# Altium schematic symbol library ZX_MyLib.SchLib: 567 symbols (part 2 of 5)

## ECMF06-6AM16
designator U?
pins: 1 DR0+, 2 DR0-, 3 GND, 4 DR1+, 5 DR1+, 6 GND, 7 DR2+, 8 DR2-, 9 DT2-, 10 DT2+, 11 GND, 12 DT1-, 13 DT1+, 14 NC, 15 DT0-, 16 DT0+

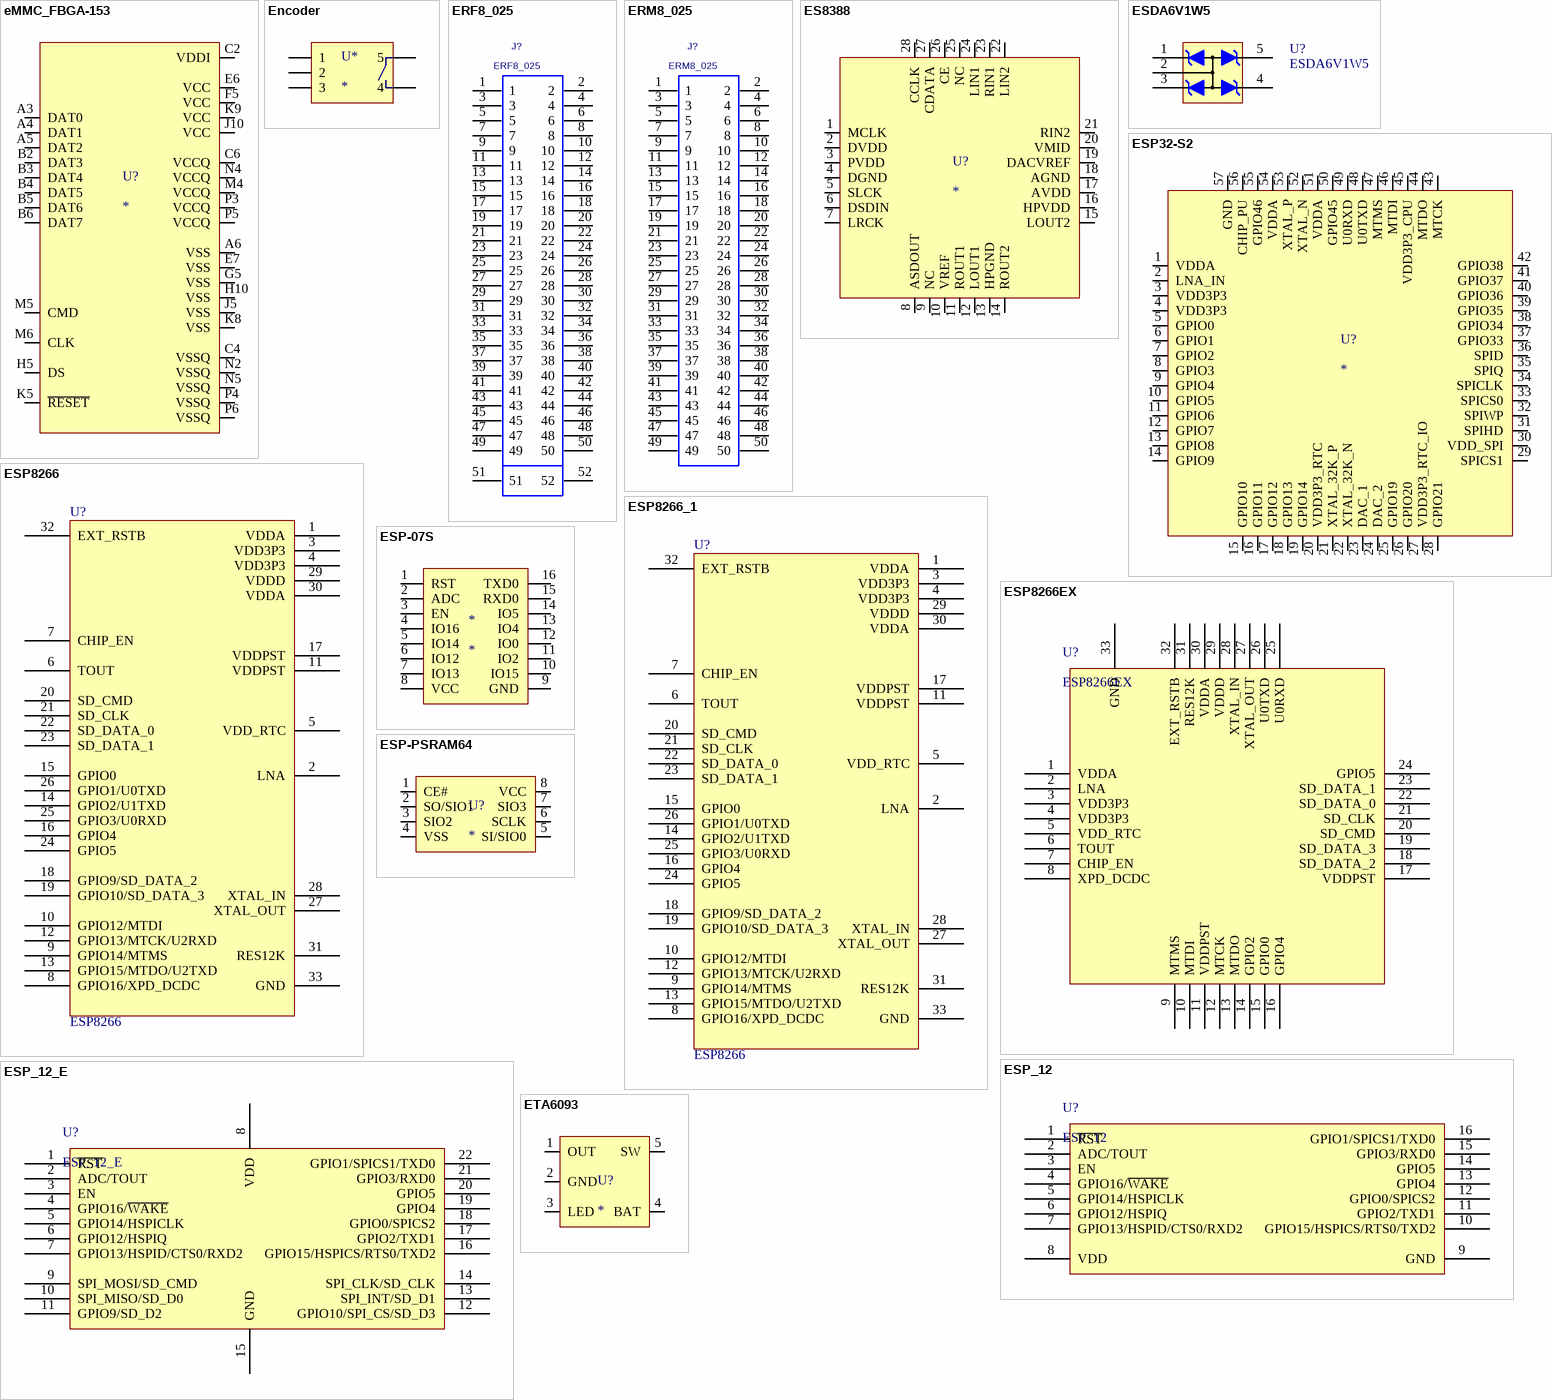
[diagram p6: symbols eMMC_FBGA-153 to ETA6093]

## eMMC_FBGA-153
designator U?
KLMAG1JETD-B041
pins: A3 DAT0, A4 DAT1, A5 DAT2, A6 VSS, B2 DAT3, B3 DAT4, B4 DAT5, B5 DAT6, B6 DAT7, C2 VDDI, C4 VSSQ, C6 VCCQ, E6 VCC, E7 VSS, F5 VCC, G5 VSS, H5 DS, H10 VSS, J5 VSS, J10 VCC, K5 ~{RESET}, K8 VSS, K9 VCC, M4 VCCQ, M5 CMD, M6 CLK, N2 VSSQ, N4 VCCQ, N5 VSSQ, P3 VCCQ, P4 VSSQ, P5 VCCQ, P6 VSSQ

## Encoder
designator U*
footprint 编码器
pins: 1, 2, 3, 4, 5

## ERF8_025
designator J?
0.8mm Edge Rate Socket Assembly, Double Vertical Row, 50 Pins.; MANUFACTURER: SAMTEC; PCB DECAL: ERF8-025-XX.X-X-DV-L; CREATED: July 31, 2014 - Wendy Xin
footprint ERF8_025
pins: 1, 2, 3, 4, 5, 6, 7, 8, 9, 10, 11, 12, 13, 14, 15, 16, 17, 18, 19, 20, 21, 22, 23, 24, 25, 26, 27, 28, 29, 30, 31, 32, 33, 34, 35, 36, 37, 38, 39, 40, 41, 42, 43, 44, 45, 46, 47, 48, 49, 50, 51, 52

## ERM8_025
designator J?
0.8mm Edge Rate Socket Assembly, Double Vertical Row, 50 Pins.; MANUFACTURER: SAMTEC; PCB DECAL: ERF8-025-XX.X-X-DV-L; CREATED: July 31, 2014 - Wendy Xin
footprint ERM8_025
pins: 1, 2, 3, 4, 5, 6, 7, 8, 9, 10, 11, 12, 13, 14, 15, 16, 17, 18, 19, 20, 21, 22, 23, 24, 25, 26, 27, 28, 29, 30, 31, 32, 33, 34, 35, 36, 37, 38, 39, 40, 41, 42, 43, 44, 45, 46, 47, 48, 49, 50

## ES8388
designator U?
footprint QFN28 (QFN28, 0.5Pitch, 5.0x5.0mm)
pins: 1 MCLK, 2 DVDD, 3 PVDD, 4 DGND, 5 SLCK, 6 DSDIN, 7 LRCK, 8 ASDOUT, 9 NC, 10 VREF, 11 ROUT1, 12 LOUT1, 13 HPGND, 14 ROUT2, 15 LOUT2, 16 HPVDD, 17 AVDD, 18 AGND, 19 DACVREF, 20 VMID, 21 RIN2, 22 LIN2, 23 RIN1, 24 LIN1, 25 NC, 26 CE, 27 CDATA, 28 CCLK

## ESDA6V1W5
designator U?
6.1V QUAL TRANSIL  ARRAY FOR ESD PROTECTION
footprint SC70-5 (SC70/SOT-323 (DCK) Package. 5-Lead Plastic SC70.)
pins: 1 1D, 2 GND, 3 2D, 4 3D, 5 4D

## ESP32-S2
designator U?
footprint QFN_56_7x7_0P4 (QFN56, 7x7mm, 0.4 pitch,)
pins: 1 VDDA, 2 LNA_IN, 3 VDD3P3, 4 VDD3P3, 5 GPIO0, 6 GPIO1, 7 GPIO2, 8 GPIO3, 9 GPIO4, 10 GPIO5, 11 GPIO6, 12 GPIO7, 13 GPIO8, 14 GPIO9, 15 GPIO10, 16 GPIO11, 17 GPIO12, 18 GPIO13, 19 GPIO14, 20 VDD3P3_RTC, 21 XTAL_32K_P, 22 XTAL_32K_N, 23 DAC_1, 24 DAC_2, 25 GPIO19, 26 GPIO20, 27 VDD3P3_RTC_IO, 28 GPIO21, 29 SPICS1, 30 VDD_SPI, 31 SPIHD, 32 SPIWP, 33 SPICS0, 34 SPICLK, 35 SPIQ, 36 SPID, 37 GPIO33, 38 GPIO34, 39 GPIO35, 40 GPIO36, 41 GPIO37, 42 GPIO38, 43 MTCK, 44 MTDO, 45 VDD3P3_CPU, 46 MTDI, 47 MTMS, 48 U0TXD, 49 U0RXD, 50 GPIO45, 51 VDDA, 52 XTAL_N, 53 XTAL_P, 54 VDDA, 55 GPIO46, 56 CHIP_PU, 57 GND

## ESP8266
designator U?
footprint QFN32 (32-Pin Quad Flat No-Lead 0.5 mm Pitch, IPC High Density)
pins: 1 VDDA (power), 2 LNA (hiz), 3 VDD3P3 (power), 4 VDD3P3 (power), 5 VDD_RTC (power), 6 TOUT (hiz), 7 CHIP_EN (hiz), 8 GPIO16/XPD_DCDC (hiz), 9 GPIO14/MTMS, 10 GPIO12/MTDI, 11 VDDPST (power), 12 GPIO13/MTCK/U2RXD, 13 GPIO15/MTDO/U2TXD, 14 GPIO2/U1TXD, 15 GPIO0, 16 GPIO4 (hiz), 17 VDDPST (power), 18 GPIO9/SD_DATA_2, 19 GPIO10/SD_DATA_3, 20 SD_CMD, 21 SD_CLK, 22 SD_DATA_0, 23 SD_DATA_1, 24 GPIO5 (hiz), 25 GPIO3/U0RXD, 26 GPIO1/U0TXD, 27 XTAL_OUT, 28 XTAL_IN, 29 VDDD (power), 30 VDDA (power), 31 RES12K, 32 EXT_RSTB, 33 GND (power)

## ESP8266_1
designator U?, comment ESP8266
footprint QFN32 (32-Pin Quad Flat No-Lead 0.5 mm Pitch, IPC High Density)
pins: 1 VDDA (power), 2 LNA (hiz), 3 VDD3P3 (power), 4 VDD3P3 (power), 5 VDD_RTC (power), 6 TOUT (hiz), 7 CHIP_EN (hiz), 8 GPIO16/XPD_DCDC (hiz), 9 GPIO14/MTMS, 10 GPIO12/MTDI, 11 VDDPST (power), 12 GPIO13/MTCK/U2RXD, 13 GPIO15/MTDO/U2TXD, 14 GPIO2/U1TXD, 15 GPIO0, 16 GPIO4 (hiz), 17 VDDPST (power), 18 GPIO9/SD_DATA_2, 19 GPIO10/SD_DATA_3, 20 SD_CMD, 21 SD_CLK, 22 SD_DATA_0, 23 SD_DATA_1, 24 GPIO5 (hiz), 25 GPIO3/U0RXD, 26 GPIO1/U0TXD, 27 XTAL_OUT, 28 XTAL_IN, 29 VDDD (power), 30 VDDA (power), 31 RES12K, 32 EXT_RSTB, 33 GND (power)

## ESP8266EX
designator U?
ESP8266EX IOT SOC
footprint QFN32 (32-Pin Quad Flat No-Lead 0.5 mm Pitch, IPC High Density)
pins: 1 VDDA (power), 2 LNA (hiz), 3 VDD3P3 (power), 4 VDD3P3 (power), 5 VDD_RTC (power), 6 TOUT (hiz), 7 CHIP_EN (hiz), 8 XPD_DCDC (hiz), 9 MTMS, 10 MTDI, 11 VDDPST (power), 12 MTCK, 13 MTDO, 14 GPIO2, 15 GPIO0, 16 GPIO4 (hiz), 17 VDDPST (power), 18 SD_DATA_2, 19 SD_DATA_3, 20 SD_CMD, 21 SD_CLK, 22 SD_DATA_0, 23 SD_DATA_1, 24 GPIO5 (hiz), 25 U0RXD, 26 U0TXD, 27 XTAL_OUT, 28 XTAL_IN, 29 VDDD (power), 30 VDDA (power), 31 RES12K, 32 EXT_RSTB, 33 GND (power)

## ESP-07S
designator *
footprint ESP-07S
pins: 1 RST, 2 ADC, 3 EN, 4 IO16, 5 IO14, 6 IO12, 7 IO13, 8 VCC, 9 GND, 10 IO15, 11 IO2, 12 IO0, 13 IO4, 14 IO5, 15 RXD0, 16 TXD0

## ESP-PSRAM64
designator U?
footprint SOP-8 (8-Pin Small Outline Integrated Circuit 1.27 mm Pitch, IPC Low Density)
pins: 1 CE#, 2 SO/SIO1, 3 SIO2, 4 VSS, 5 SI/SIO0, 6 SCLK, 7 SIO3, 8 VCC

## ESP_12
designator U?
ESP-12 Wi-Fi Module by AI-Thinker; IC: ESP8266-EX; Vendor: Ai-thinker
footprint ESP_12 (ESP-12 Wi-Fi Module by AI-Thinker)
pins: 1 ~{RST} "Reset", 2 ADC/TOUT "ADC Input Or TOUT Output", 3 EN "Chip enable", 4 GPIO16/~{WAKE} "GPIO16 or Deep-Sleep Wakeup", 5 GPIO14/HSPICLK "GPIO14 or SPI CLK", 6 GPIO12/HSPIQ "GPIO12 or SPIQ", 7 GPIO13/HSPID/CTS0/RXD2 "GPIO13 or SPID", 8 VDD "Power supply", 9 GND "Power ground", 10 GPIO15/HSPICS/RTS0/TXD2 "GPIO15 or SPICS", 11 GPIO2/TXD1 "GPIO2 or TX", 12 GPIO0/SPICS2 "GPIO0 or SPICS2", 13 GPIO4 "GPIO5", 14 GPIO5 "GPIO4", 15 GPIO3/RXD0 "GPIO3 or UART RXD", 16 GPIO1/SPICS1/TXD0 "GPIO1 or UART TXD"

## ESP_12_E
designator U?
ESP-12 Wi-Fi Module by AI-Thinker; IC: ESP8266-EX; Vendor: Ai-thinker
footprint ESP_12_E (ESP-12 Wi-Fi Module by AI-Thinker)
footprint ESP_12_E_L (ESP-12 Wi-Fi Module by AI-Thinker)
footprint ESP_12_F (ESP-12 Wi-Fi Module by AI-Thinker)
footprint ESP_12_F_L (ESP-12 Wi-Fi Module by AI-Thinker)
pins: 1 ~{RST} "Reset", 2 ADC/TOUT "ADC Input Or TOUT Output", 3 EN "Chip enable", 4 GPIO16/~{WAKE} "GPIO16 or Deep-Sleep Wakeup", 5 GPIO14/HSPICLK "GPIO14 or SPI CLK", 6 GPIO12/HSPIQ "GPIO12 or SPIQ", 7 GPIO13/HSPID/CTS0/RXD2 "GPIO13 or SPID", 8 VDD "Power supply", 9 SPI_MOSI/SD_CMD "GPIO14 or SPI CLK", 10 SPI_MISO/SD_D0 "GPIO12 or SPIQ", 11 GPIO9/SD_D2 "GPIO13 or SPID", 12 GPIO10/SPI_CS/SD_D3 "GPIO15 or SPICS", 13 SPI_INT/SD_D1 "GPIO2 or TX", 14 SPI_CLK/SD_CLK "GPIO0 or SPICS2", 15 GND "Power ground", 16 GPIO15/HSPICS/RTS0/TXD2 "GPIO15 or SPICS", 17 GPIO2/TXD1 "GPIO2 or TX", 18 GPIO0/SPICS2 "GPIO0 or SPICS2", 19 GPIO4 "GPIO5", 20 GPIO5 "GPIO4", 21 GPIO3/RXD0 "GPIO3 or UART RXD", 22 GPIO1/SPICS1/TXD0 "GPIO1 or UART TXD"

## ETA6093
designator U?
1A开关型锂电池充电自带1A升压放电
footprint SOT23-5 (SOT-23/SC-74A; 5 Leads; Body 3 x 3 mm, inc. leads (LxW max))
pins: 1 OUT, 2 GND, 3 LED, 4 BAT, 5 SW

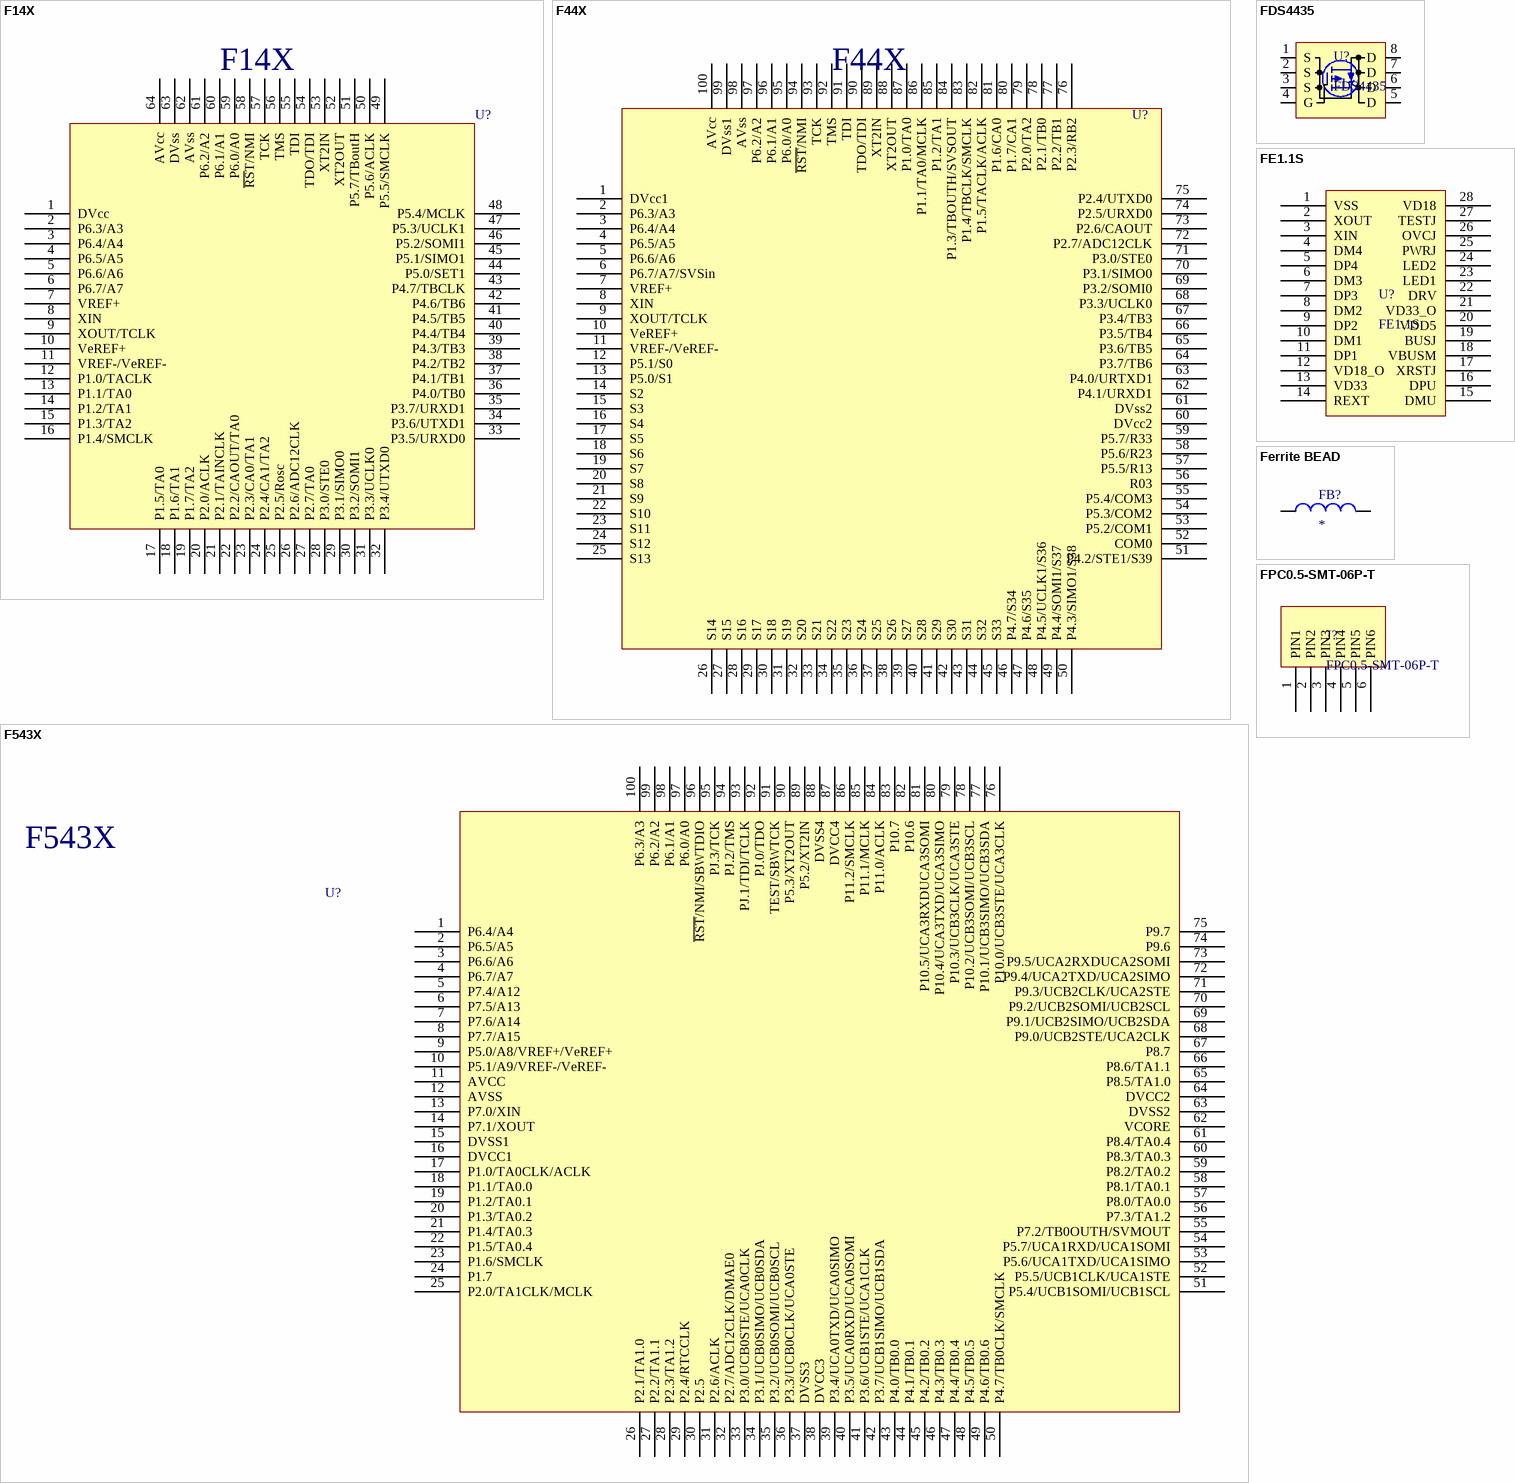
[diagram p7: symbols F14X to FPC0.5-SMT-06P-T]

## F14X
designator U?
footprint F14X
pins: 1 DVcc, 2 P6.3/A3, 3 P6.4/A4, 4 P6.5/A5, 5 P6.6/A6, 6 P6.7/A7, 7 VREF+, 8 XIN, 9 XOUT/TCLK, 10 VeREF+, 11 VREF-/VeREF-, 12 P1.0/TACLK, 13 P1.1/TA0, 14 P1.2/TA1, 15 P1.3/TA2, 16 P1.4/SMCLK, 17 P1.5/TA0, 18 P1.6/TA1, 19 P1.7/TA2, 20 P2.0/ACLK, 21 P2.1/TAINCLK, 22 P2.2/CAOUT/TA0, 23 P2.3/CA0/TA1, 24 P2.4/CA1/TA2, 25 P2.5/Rosc, 26 P2.6/ADC12CLK, 27 P2.7/TA0, 28 P3.0/STE0, 29 P3.1/SIMO0, 30 P3.2/SOMI1, 31 P3.3/UCLK0, 32 P3.4/UTXD0, 33 P3.5/URXD0, 34 P3.6/UTXD1, 35 P3.7/URXD1, 36 P4.0/TB0, 37 P4.1/TB1, 38 P4.2/TB2, 39 P4.3/TB3, 40 P4.4/TB4, 41 P4.5/TB5, 42 P4.6/TB6, 43 P4.7/TBCLK, 44 P5.0/SET1, 45 P5.1/SIMO1, 46 P5.2/SOMI1, 47 P5.3/UCLK1, 48 P5.4/MCLK, 49 P5.5/SMCLK, 50 P5.6/ACLK, 51 P5.7/TBoutH, 52 XT2OUT, 53 XT2IN, 54 TDO/TDI, 55 TDI, 56 TMS, 57 TCK, 58 ~{RS}T/NMI, 59 P6.0/A0, 60 P6.1/A1, 61 P6.2/A2, 62 AVss, 63 DVss, 64 AVcc

## F44X
designator U?
footprint F44X (msp430f449)
pins: 1 DVcc1, 2 P6.3/A3, 3 P6.4/A4, 4 P6.5/A5, 5 P6.6/A6, 6 P6.7/A7/SVSin, 7 VREF+, 8 XIN, 9 XOUT/TCLK, 10 VeREF+, 11 VREF-/VeREF-, 12 P5.1/S0, 13 P5.0/S1, 14 S2, 15 S3, 16 S4, 17 S5, 18 S6, 19 S7, 20 S8, 21 S9, 22 S10, 23 S11, 24 S12, 25 S13, 26 S14, 27 S15, 28 S16, 29 S17, 30 S18, 31 S19, 32 S20, 33 S21, 34 S22, 35 S23, 36 S24, 37 S25, 38 S26, 39 S27, 40 S28, 41 S29, 42 S30, 43 S31, 44 S32, 45 S33, 46 P4.7/S34, 47 P4.6/S35, 48 P4.5/UCLK1/S36, 49 P4.4/SOMI1/S37, 50 P4.3/SIMO1/S38, 51 P4.2/STE1/S39, 52 COM0, 53 P5.2/COM1, 54 P5.3/COM2, 55 P5.4/COM3, 56 R03, 57 P5.5/R13, 58 P5.6/R23, 59 P5.7/R33, 60 DVcc2, 61 DVss2, 62 P4.1/URXD1, 63 P4.0/URTXD1, 64 P3.7/TB6, 65 P3.6/TB5, 66 P3.5/TB4, 67 P3.4/TB3, 68 P3.3/UCLK0, 69 P3.2/SOMI0, 70 P3.1/SIMO0, 71 P3.0/STE0, 72 P2.7/ADC12CLK, 73 P2.6/CAOUT, 74 P2.5/URXD0, 75 P2.4/UTXD0, 76 P2.3/RB2, 77 P2.2/TB1, 78 P2.1/TB0, 79 P2.0/TA2, 80 P1.7/CA1, 81 P1.6/CA0, 82 P1.5/TACLK/ACLK, 83 P1.4/TBCLK/SMCLK, 84 P1.3/TBOUTH/SVSOUT, 85 P1.2/TA1, 86 P1.1/TA0/MCLK, 87 P1.0/TA0, 88 XT2OUT, 89 XT2IN, 90 TDO/TDI, 91 TDI, 92 TMS, 93 TCK, 94 ~{RST}/NMI, 95 P6.0/A0, 96 P6.1/A1, 97 P6.2/A2, 98 AVss, 99 DVss1, 100 AVcc

## F543X
designator U?
footprint F543X (msp430f5438)
pins: 1 P6.4/A4, 2 P6.5/A5, 3 P6.6/A6, 4 P6.7/A7, 5 P7.4/A12, 6 P7.5/A13, 7 P7.6/A14, 8 P7.7/A15, 9 P5.0/A8/VREF+/VeREF+, 10 P5.1/A9/VREF-/VeREF-, 11 AVCC, 12 AVSS, 13 P7.0/XIN, 14 P7.1/XOUT, 15 DVSS1, 16 DVCC1, 17 P1.0/TA0CLK/ACLK, 18 P1.1/TA0.0, 19 P1.2/TA0.1, 20 P1.3/TA0.2, 21 P1.4/TA0.3, 22 P1.5/TA0.4, 23 P1.6/SMCLK, 24 P1.7, 25 P2.0/TA1CLK/MCLK, 26 P2.1/TA1.0, 27 P2.2/TA1.1, 28 P2.3/TA1.2, 29 P2.4/RTCCLK, 30 P2.5, 31 P2.6/ACLK, 32 P2.7/ADC12CLK/DMAE0, 33 P3.0/UCB0STE/UCA0CLK, 34 P3.1/UCB0SIMO/UCB0SDA, 35 P3.2/UCB0SOMI/UCB0SCL, 36 P3.3/UCB0CLK/UCA0STE, 37 DVSS3, 38 DVCC3, 39 P3.4/UCA0TXD/UCA0SIMO, 40 P3.5/UCA0RXD/UCA0SOMI, 41 P3.6/UCB1STE/UCA1CLK, 42 P3.7/UCB1SIMO/UCB1SDA, 43 P4.0/TB0.0, 44 P4.1/TB0.1, 45 P4.2/TB0.2, 46 P4.3/TB0.3, 47 P4.4/TB0.4, 48 P4.5/TB0.5, 49 P4.6/TB0.6, 50 P4.7/TB0CLK/SMCLK, 51 P5.4/UCB1SOMI/UCB1SCL, 52 P5.5/UCB1CLK/UCA1STE, 53 P5.6/UCA1TXD/UCA1SIMO, 54 P5.7/UCA1RXD/UCA1SOMI, 55 P7.2/TB0OUTH/SVMOUT, 56 P7.3/TA1.2, 57 P8.0/TA0.0, 58 P8.1/TA0.1, 59 P8.2/TA0.2, 60 P8.3/TA0.3, 61 P8.4/TA0.4, 62 VCORE, 63 DVSS2, 64 DVCC2, 65 P8.5/TA1.0, 66 P8.6/TA1.1, 67 P8.7, 68 P9.0/UCB2STE/UCA2CLK, 69 P9.1/UCB2SIMO/UCB2SDA, 70 P9.2/UCB2SOMI/UCB2SCL, 71 P9.3/UCB2CLK/UCA2STE, 72 P9.4/UCA2TXD/UCA2SIMO, 73 P9.5/UCA2RXDUCA2SOMI, 74 P9.6, 75 P9.7, 76 P10.0/UCB3STE/UCA3CLK, 77 P10.1/UCB3SIMO/UCB3SDA, 78 P10.2/UCB3SOMI/UCB3SCL, 79 P10.3/UCB3CLK/UCA3STE, 80 P10.4/UCA3TXD/UCA3SIMO, 81 P10.5/UCA3RXDUCA3SOMI, 82 P10.6, 83 P10.7, 84 P11.0/ACLK, 85 P11.1/MCLK, 86 P11.2/SMCLK, 87 DVCC4, 88 DVSS4, 89 P5.2/XT2IN, 90 P5.3/XT2OUT, 91 TEST/SBWTCK, 92 PJ.0/TDO, 93 PJ.1/TDI/TCLK, 94 PJ.2/TMS, 95 PJ.3/TCK, 96 ~{RST}/NMI/SBWTDIO, 97 P6.0/A0, 98 P6.1/A1, 99 P6.2/A2, 100 P6.3/A3

## FDS4435
designator U?
FDS4435 P-Channel Logic Level PowerTrench MOSFET
footprint FDS4435 (FDS4435 P-Channel Logic Level PowerTrench MOSFET)
pins: 1 S, 2 S, 3 S, 4 G, 5 D, 6 D, 7 D, 8 D

## FE1.1S
designator U?
footprint FE1.1S (SSOP,28,间距0.64mm)
pins: 1 VSS, 2 XOUT, 3 XIN, 4 DM4, 5 DP4, 6 DM3, 7 DP3, 8 DM2, 9 DP2, 10 DM1, 11 DP1, 12 VD18_O, 13 VD33, 14 REXT, 15 DMU, 16 DPU, 17 XRSTJ, 18 VBUSM, 19 BUSJ, 20 VDD5, 21 VD33_O, 22 DRV, 23 LED1, 24 LED2, 25 PWRJ, 26 OVCJ, 27 TESTJ, 28 VD18

## Ferrite BEAD
designator FB?
贴片磁珠
footprint 0402_RES_SMT
pins: 1, 2

## FPC0.5-SMT-06P-T
designator J?
footprint FPC0.5-SMT-06P-T
footprint FPC0.5-SMT-06P-T-DRAWER (FPC0.5-SMT-06P-T)
pins: 1 PIN1, 2 PIN2, 3 PIN3, 4 PIN4, 5 PIN5, 6 PIN6

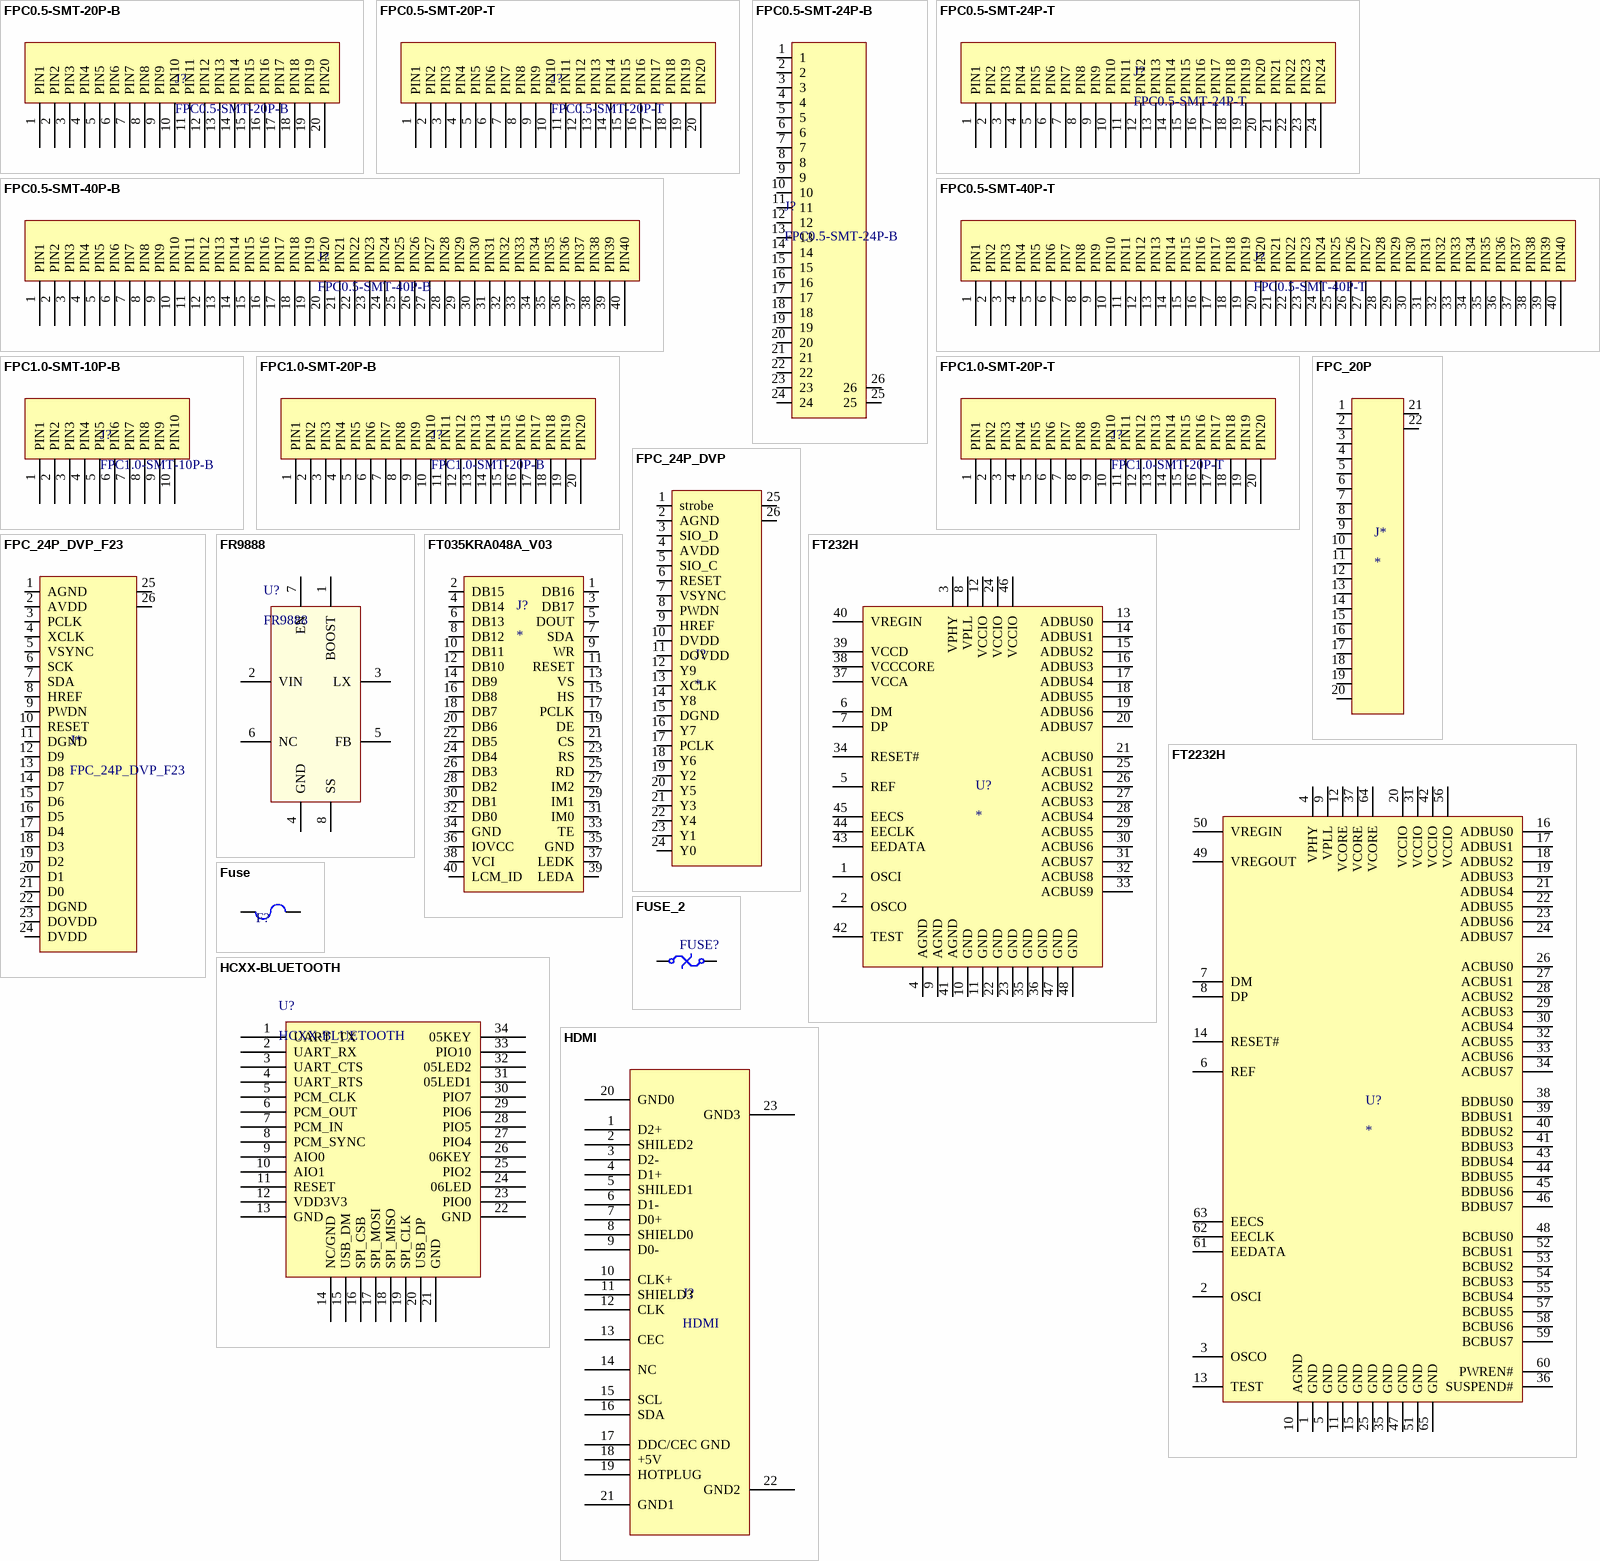
[diagram p8: symbols FPC0.5-SMT-20P-B to HDMI]

## FPC0.5-SMT-20P-B
designator J?
footprint FPC0.5-SMT-20P-B-DRAWER
footprint FPC0.5-SMT-20P-B
pins: 1 PIN1, 2 PIN2, 3 PIN3, 4 PIN4, 5 PIN5, 6 PIN6, 7 PIN7, 8 PIN8, 9 PIN9, 10 PIN10, 11 PIN11, 12 PIN12, 13 PIN13, 14 PIN14, 15 PIN15, 16 PIN16, 17 PIN17, 18 PIN18, 19 PIN19, 20 PIN20

## FPC0.5-SMT-20P-T
designator J?
footprint FPC0.5-SMT-20P-T-DRAWER
footprint FPC0.5-SMT-20P-T
pins: 1 PIN1, 2 PIN2, 3 PIN3, 4 PIN4, 5 PIN5, 6 PIN6, 7 PIN7, 8 PIN8, 9 PIN9, 10 PIN10, 11 PIN11, 12 PIN12, 13 PIN13, 14 PIN14, 15 PIN15, 16 PIN16, 17 PIN17, 18 PIN18, 19 PIN19, 20 PIN20

## FPC0.5-SMT-24P-B
designator J?
footprint FPC0.5-SMT-24P-B
footprint FPC0.5-SMT-24P-B-DRAWER
pins: 1, 2, 3, 4, 5, 6, 7, 8, 9, 10, 11, 12, 13, 14, 15, 16, 17, 18, 19, 20, 21, 22, 23, 24, 25, 26

## FPC0.5-SMT-24P-T
designator J?
footprint FPC0.5-SMT-24P-T
footprint FPC0.5-SMT-24P-T-DRAWER
pins: 1 PIN1, 2 PIN2, 3 PIN3, 4 PIN4, 5 PIN5, 6 PIN6, 7 PIN7, 8 PIN8, 9 PIN9, 10 PIN10, 11 PIN11, 12 PIN12, 13 PIN13, 14 PIN14, 15 PIN15, 16 PIN16, 17 PIN17, 18 PIN18, 19 PIN19, 20 PIN20, 21 PIN21, 22 PIN22, 23 PIN23, 24 PIN24

## FPC0.5-SMT-40P-B
designator J?
footprint FPC0.5-SMT-40P-B
footprint FPC0.5-SMT-40P-B-DRAWER (FPC0.5-SMT-40P-B)
pins: 1 PIN1, 2 PIN2, 3 PIN3, 4 PIN4, 5 PIN5, 6 PIN6, 7 PIN7, 8 PIN8, 9 PIN9, 10 PIN10, 11 PIN11, 12 PIN12, 13 PIN13, 14 PIN14, 15 PIN15, 16 PIN16, 17 PIN17, 18 PIN18, 19 PIN19, 20 PIN20, 21 PIN21, 22 PIN22, 23 PIN23, 24 PIN24, 25 PIN25, 26 PIN26, 27 PIN27, 28 PIN28, 29 PIN29, 30 PIN30, 31 PIN31, 32 PIN32, 33 PIN33, 34 PIN34, 35 PIN35, 36 PIN36, 37 PIN37, 38 PIN38, 39 PIN39, 40 PIN40

## FPC0.5-SMT-40P-T
designator J?
footprint FPC0.5-SMT-40P-T
footprint FPC0.5-SMT-40P-T-DRAWER (FPC0.5-SMT-40P-T)
pins: 1 PIN1, 2 PIN2, 3 PIN3, 4 PIN4, 5 PIN5, 6 PIN6, 7 PIN7, 8 PIN8, 9 PIN9, 10 PIN10, 11 PIN11, 12 PIN12, 13 PIN13, 14 PIN14, 15 PIN15, 16 PIN16, 17 PIN17, 18 PIN18, 19 PIN19, 20 PIN20, 21 PIN21, 22 PIN22, 23 PIN23, 24 PIN24, 25 PIN25, 26 PIN26, 27 PIN27, 28 PIN28, 29 PIN29, 30 PIN30, 31 PIN31, 32 PIN32, 33 PIN33, 34 PIN34, 35 PIN35, 36 PIN36, 37 PIN37, 38 PIN38, 39 PIN39, 40 PIN40

## FPC1.0-SMT-10P-B
designator J?
footprint FPC1.0-SMT-10P-B
pins: 1 PIN1, 2 PIN2, 3 PIN3, 4 PIN4, 5 PIN5, 6 PIN6, 7 PIN7, 8 PIN8, 9 PIN9, 10 PIN10

## FPC1.0-SMT-20P-B
designator J?
footprint FPC1.0-SMT-20P-B
pins: 1 PIN1, 2 PIN2, 3 PIN3, 4 PIN4, 5 PIN5, 6 PIN6, 7 PIN7, 8 PIN8, 9 PIN9, 10 PIN10, 11 PIN11, 12 PIN12, 13 PIN13, 14 PIN14, 15 PIN15, 16 PIN16, 17 PIN17, 18 PIN18, 19 PIN19, 20 PIN20

## FPC1.0-SMT-20P-T
designator J?
footprint FPC1.0-SMT-20P-T
pins: 1 PIN1, 2 PIN2, 3 PIN3, 4 PIN4, 5 PIN5, 6 PIN6, 7 PIN7, 8 PIN8, 9 PIN9, 10 PIN10, 11 PIN11, 12 PIN12, 13 PIN13, 14 PIN14, 15 PIN15, 16 PIN16, 17 PIN17, 18 PIN18, 19 PIN19, 20 PIN20

## FPC_20P
designator J*
0.5mm间距，20PIN FPC座
pins: 1, 2, 3, 4, 5, 6, 7, 8, 9, 10, 11, 12, 13, 14, 15, 16, 17, 18, 19, 20, 21, 22

## FPC_24P_DVP
designator J?
footprint FPC0.5-SMT-24P-B-DRAWER
pins: 1 strobe, 2 AGND, 3 SIO_D, 4 AVDD, 5 SIO_C, 6 RESET, 7 VSYNC, 8 PWDN, 9 HREF, 10 DVDD, 11 DOVDD, 12 Y9, 13 XCLK, 14 Y8, 15 DGND, 16 Y7, 17 PCLK, 18 Y6, 19 Y2, 20 Y5, 21 Y3, 22 Y4, 23 Y1, 24 Y0, 25, 26

## FPC_24P_DVP_F23
designator J*
footprint FPC0.5-SMT-24P-B
footprint FPC24-005-0414-011-F-H
footprint FPC0.5-SMT-24P-C (FPC0.5-SMT-24P 后锁)
pins: 1 AGND, 2 AVDD, 3 PCLK, 4 XCLK, 5 VSYNC, 6 SCK, 7 SDA, 8 HREF, 9 PWDN, 10 RESET, 11 DGND, 12 D9, 13 D8, 14 D7, 15 D6, 16 D5, 17 D4, 18 D3, 19 D2, 20 D1, 21 D0, 22 DGND, 23 DOVDD, 24 DVDD, 25, 26

## FR9888
designator U?
23V, 3.5A, 340KHz Synchronous Step-Down  DC/DC Converter
footprint FR9888 (FR9888 SOP8 With Pad)
pins: 1 BOOST, 2 VIN, 3 LX, 4 GND, 5 FB, 6 NC, 7 EN, 8 SS

## FT035KRA048A_V03
designator J?
footprint BTOB_AXK8L_40P_M (插头)
pins: 1 DB16, 2 DB15, 3 DB17, 4 DB14, 5 DOUT, 6 DB13, 7 SDA, 8 DB12, 9 WR, 10 DB11, 11 RESET, 12 DB10, 13 VS, 14 DB9, 15 HS, 16 DB8, 17 PCLK, 18 DB7, 19 DE, 20 DB6, 21 CS, 22 DB5, 23 RS, 24 DB4, 25 RD, 26 DB3, 27 IM2, 28 DB2, 29 IM1, 30 DB1, 31 IM0, 32 DB0, 33 TE, 34 GND, 35 GND, 36 IOVCC, 37 LEDK, 38 VCI, 39 LEDA, 40 LCM_ID

## FT232H
designator U?
USB->JTAG、UART、I2C、SPI
footprint LQFP48_M (Thin QFP, 48-Leads, Body 7x7mm, Pitch 0.5mm, IPC Low Density)
pins: 1 OSCI, 2 OSCO, 3 VPHY (power), 4 AGND (power), 5 REF, 6 DM, 7 DP, 8 VPLL (power), 9 AGND (power), 10 GND (power), 11 GND (power), 12 VCCIO (power), 13 ADBUS0, 14 ADBUS1, 15 ADBUS2, 16 ADBUS3, 17 ADBUS4, 18 ADBUS5, 19 ADBUS6, 20 ADBUS7, 21 ACBUS0, 22 GND (power), 23 GND (power), 24 VCCIO (power), 25 ACBUS1, 26 ACBUS2, 27 ACBUS3, 28 ACBUS4, 29 ACBUS5, 30 ACBUS6, 31 ACBUS7, 32 ACBUS8, 33 ACBUS9, 34 RESET#, 35 GND (power), 36 GND (power), 37 VCCA (power), 38 VCCCORE (power), 39 VCCD (power), 40 VREGIN (power), 41 AGND (power), 42 TEST, 43 EEDATA, 44 EECLK, 45 EECS, 46 VCCIO (power), 47 GND (power), 48 GND (power)

## FT2232H
designator U?
pins: 1 GND (power), 2 OSCI, 3 OSCO, 4 VPHY (power), 5 GND (power), 6 REF, 7 DM, 8 DP, 9 VPLL (power), 10 AGND (power), 11 GND (power), 12 VCORE (power), 13 TEST, 14 RESET#, 15 GND (power), 16 ADBUS0, 17 ADBUS1, 18 ADBUS2, 19 ADBUS3, 20 VCCIO (power), 21 ADBUS4, 22 ADBUS5, 23 ADBUS6, 24 ADBUS7, 25 GND (power), 26 ACBUS0, 27 ACBUS1, 28 ACBUS2, 29 ACBUS3, 30 ACBUS4, 31 VCCIO (power), 32 ACBUS5, 33 ACBUS6, 34 ACBUS7, 35 GND (power), 36 SUSPEND#, 37 VCORE (power), 38 BDBUS0, 39 BDBUS1, 40 BDBUS2, 41 BDBUS3, 42 VCCIO (power), 43 BDBUS4, 44 BDBUS5, 45 BDBUS6, 46 BDBUS7, 47 GND (power), 48 BCBUS0, 49 VREGOUT (power), 50 VREGIN (power), 51 GND (power), 52 BCBUS1, 53 BCBUS2, 54 BCBUS3, 55 BCBUS4, 56 VCCIO (power), 57 BCBUS5, 58 BCBUS6, 59 BCBUS7, 60 PWREN#, 61 EEDATA, 62 EECLK, 63 EECS, 64 VCORE (power), 65 GND (power)

## Fuse
designator F?
Fuse
footprint 0805 - RES
pins: 1, 2

## FUSE_2
designator FUSE?
footprint SMT_FUSE_0402 (Surface mount FUSE 0402)
pins: 1, 2

## HCXX-BLUETOOTH
designator U?
footprint HCXX-BLUETOOTH
pins: 1 UART_TX, 2 UART_RX, 3 UART_CTS, 4 UART_RTS, 5 PCM_CLK, 6 PCM_OUT, 7 PCM_IN, 8 PCM_SYNC, 9 AIO0, 10 AIO1, 11 RESET, 12 VDD3V3, 13 GND, 14 NC/GND, 15 USB_DM, 16 SPI_CSB, 17 SPI_MOSI, 18 SPI_MISO, 19 SPI_CLK, 20 USB_DP, 21 GND, 22 GND, 23 PIO0, 24 06LED, 25 PIO2, 26 06KEY, 27 PIO4, 28 PIO5, 29 PIO6, 30 PIO7, 31 05LED1, 32 05LED2, 33 PIO10, 34 05KEY

## HDMI
designator J?
footprint HDMI
pins: 1 D2+, 2 SHILED2, 3 D2-, 4 D1+, 5 SHILED1, 6 D1-, 7 D0+, 8 SHIELD0, 9 D0-, 10 CLK+, 11 SHIELD3, 12 CLK, 13 CEC, 14 NC, 15 SCL, 16 SDA, 17 DDC/CEC GND, 18 +5V, 19 HOTPLUG, 20 GND0, 21 GND1, 22 GND2, 23 GND3

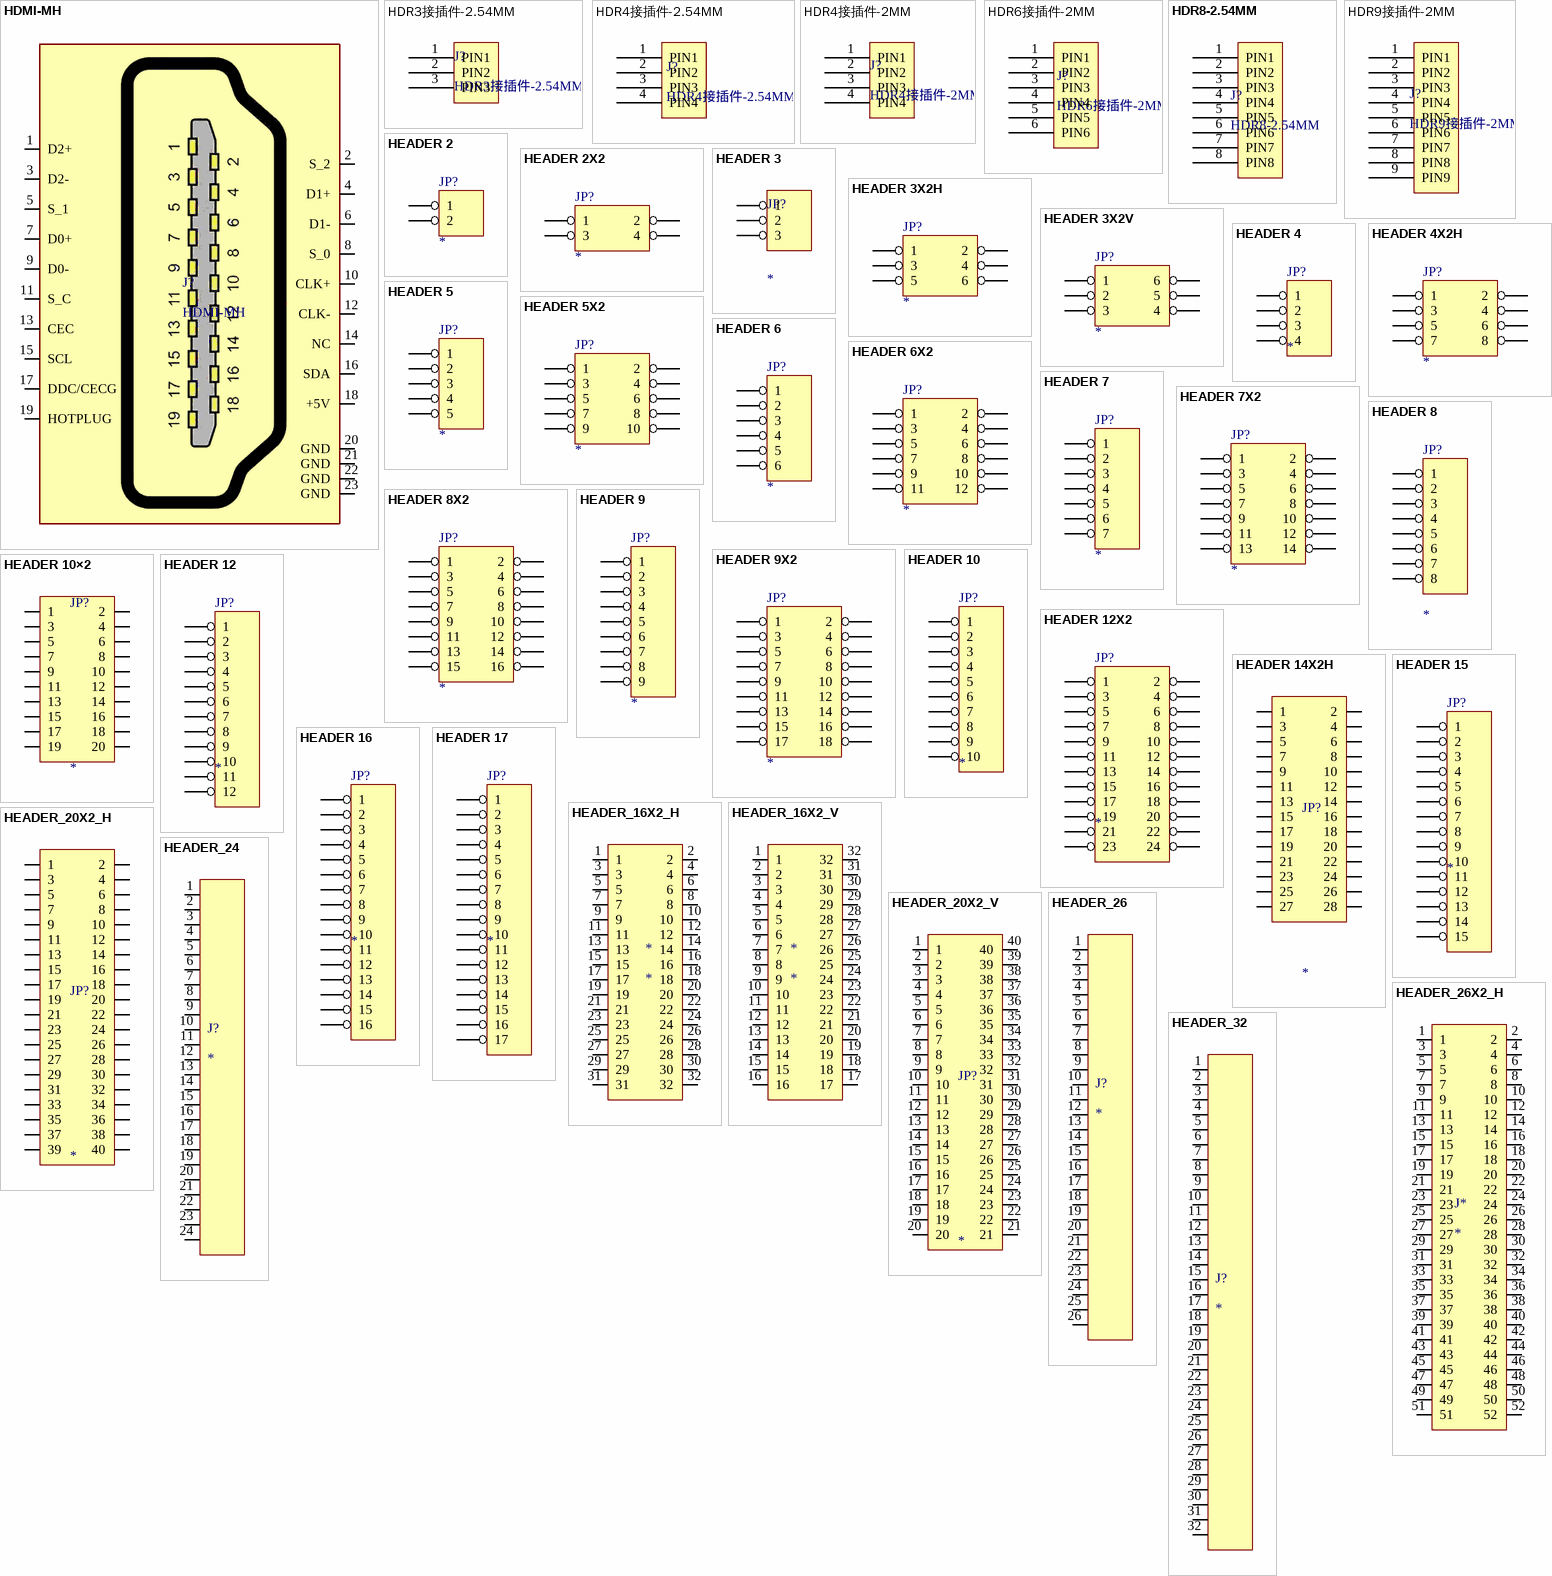
[diagram p9: symbols HDMI-MH to HEADER_32]

## HDMI-MH
designator J?
footprint HDMI
pins: 1 D2+, 2 S_2, 3 D2-, 4 D1+, 5 S_1, 6 D1-, 7 D0+, 8 S_0, 9 D0-, 10 CLK+, 11 S_C, 12 CLK-, 13 CEC, 14 NC, 15 SCL, 16 SDA, 17 DDC/CECG, 18 +5V, 19 HOTPLUG, 20 GND, 21 GND, 22 GND, 23 GND

## HDR3接插件-2.54MM
designator J?
footprint HDR3-2.54mm (485输入)
pins: 1 PIN1, 2 PIN2, 3 PIN3

## HDR4接插件-2.54MM
designator J?
footprint HDR4接插件-2.54MM
pins: 1 PIN1, 2 PIN2, 3 PIN3, 4 PIN4

## HDR4接插件-2MM
designator J?
footprint HDR4接插件-2MM
pins: 1 PIN1, 2 PIN2, 3 PIN3, 4 PIN4

## HDR6接插件-2MM
designator J?
footprint HDR6接插件-2MM
pins: 1 PIN1, 2 PIN2, 3 PIN3, 4 PIN4, 5 PIN5, 6 PIN6

## HDR8-2.54MM
designator J?
footprint HDR8-2.54MM
pins: 1 PIN1, 2 PIN2, 3 PIN3, 4 PIN4, 5 PIN5, 6 PIN6, 7 PIN7, 8 PIN8

## HDR9接插件-2MM
designator J?
footprint HDR9接插件-2MM
pins: 1 PIN1, 2 PIN2, 3 PIN3, 4 PIN4, 5 PIN5, 6 PIN6, 7 PIN7, 8 PIN8, 9 PIN9

## HEADER 2
designator JP?
footprint 2PIN-N
pins: 1, 2

## HEADER 2X2
designator JP?
footprint 2PIN×2H
footprint 2PIN×2V
pins: 1, 2, 3, 4

## HEADER 3
designator JP?
footprint 3PIN_N_2MM
footprint 3PIN_N_254MM
pins: 1, 2, 3

## HEADER 3X2H
designator JP?
footprint 3PIN×2H-N
pins: 1, 2, 3, 4, 5, 6

## HEADER 3X2V
designator JP?
footprint 3PIN×2V
pins: 1, 2, 3, 4, 5, 6

## HEADER 4
designator JP?
footprint 4PIN-N
pins: 1, 2, 3, 4

## HEADER 4X2H
designator JP?
pins: 1, 2, 3, 4, 5, 6, 7, 8

## HEADER 5
designator JP?
footprint 5PIN
pins: 1, 2, 3, 4, 5

## HEADER 5X2
designator JP?
pins: 1, 2, 3, 4, 5, 6, 7, 8, 9, 10

## HEADER 6
designator JP?
pins: 1, 2, 3, 4, 5, 6

## HEADER 6X2
designator JP?
pins: 1, 2, 3, 4, 5, 6, 7, 8, 9, 10, 11, 12

## HEADER 7
designator JP?
pins: 1, 2, 3, 4, 5, 6, 7

## HEADER 7X2
designator JP?
footprint 7PIN-2H-N
pins: 1, 2, 3, 4, 5, 6, 7, 8, 9, 10, 11, 12, 13, 14

## HEADER 8
designator JP?
footprint 8PIN
pins: 1, 2, 3, 4, 5, 6, 7, 8

## HEADER 8X2
designator JP?
pins: 1, 2, 3, 4, 5, 6, 7, 8, 9, 10, 11, 12, 13, 14, 15, 16

## HEADER 9
designator JP?
pins: 1, 2, 3, 4, 5, 6, 7, 8, 9

## HEADER 9X2
designator JP?
pins: 1, 2, 3, 4, 5, 6, 7, 8, 9, 10, 11, 12, 13, 14, 15, 16, 17, 18

## HEADER 10
designator JP?
footprint 10PIN
pins: 1, 2, 3, 4, 5, 6, 7, 8, 9, 10

## HEADER 10×2
designator JP?
footprint 10PIN-2H-H-2MM
pins: 1, 2, 3, 4, 5, 6, 7, 8, 9, 10, 11, 12, 13, 14, 15, 16, 17, 18, 19, 20

## HEADER 12
designator JP?
pins: 1, 2, 3, 4, 5, 6, 7, 8, 9, 10, 11, 12

## HEADER 12X2
designator JP?
footprint 12PINX2
pins: 1, 2, 3, 4, 5, 6, 7, 8, 9, 10, 11, 12, 13, 14, 15, 16, 17, 18, 19, 20, 21, 22, 23, 24

## HEADER 14X2H
designator JP?
footprint 14PIN_2H_N_2MM
pins: 1, 2, 3, 4, 5, 6, 7, 8, 9, 10, 11, 12, 13, 14, 15, 16, 17, 18, 19, 20, 21, 22, 23, 24, 25, 26, 27, 28

## HEADER 15
designator JP?
pins: 1, 2, 3, 4, 5, 6, 7, 8, 9, 10, 11, 12, 13, 14, 15

## HEADER 16
designator JP?
pins: 1, 2, 3, 4, 5, 6, 7, 8, 9, 10, 11, 12, 13, 14, 15, 16

## HEADER 17
designator JP?
footprint StampHole_D30H40_17P_50mil
pins: 1, 2, 3, 4, 5, 6, 7, 8, 9, 10, 11, 12, 13, 14, 15, 16, 17

## HEADER_16X2_H
designator *
pins: 1, 2, 3, 4, 5, 6, 7, 8, 9, 10, 11, 12, 13, 14, 15, 16, 17, 18, 19, 20, 21, 22, 23, 24, 25, 26, 27, 28, 29, 30, 31, 32

## HEADER_16X2_V
designator *
pins: 1, 2, 3, 4, 5, 6, 7, 8, 9, 10, 11, 12, 13, 14, 15, 16, 17, 18, 19, 20, 21, 22, 23, 24, 25, 26, 27, 28, 29, 30, 31, 32

## HEADER_20X2_H
designator JP?
footprint 20PIN_2H_2MM_SP
pins: 1, 2, 3, 4, 5, 6, 7, 8, 9, 10, 11, 12, 13, 14, 15, 16, 17, 18, 19, 20, 21, 22, 23, 24, 25, 26, 27, 28, 29, 30, 31, 32, 33, 34, 35, 36, 37, 38, 39, 40

## HEADER_20X2_V
designator JP?
footprint 20PIN_2H_2MM_SP
pins: 1, 2, 3, 4, 5, 6, 7, 8, 9, 10, 11, 12, 13, 14, 15, 16, 17, 18, 19, 20, 21, 22, 23, 24, 25, 26, 27, 28, 29, 30, 31, 32, 33, 34, 35, 36, 37, 38, 39, 40

## HEADER_24
designator J?
pins: 1, 2, 3, 4, 5, 6, 7, 8, 9, 10, 11, 12, 13, 14, 15, 16, 17, 18, 19, 20, 21, 22, 23, 24

## HEADER_26
designator J?
pins: 1, 2, 3, 4, 5, 6, 7, 8, 9, 10, 11, 12, 13, 14, 15, 16, 17, 18, 19, 20, 21, 22, 23, 24, 25, 26

## HEADER_26X2_H
designator J*
footprint 26PIN_2H_2MM
pins: 1, 2, 3, 4, 5, 6, 7, 8, 9, 10, 11, 12, 13, 14, 15, 16, 17, 18, 19, 20, 21, 22, 23, 24, 25, 26, 27, 28, 29, 30, 31, 32, 33, 34, 35, 36, 37, 38, 39, 40, 41, 42, 43, 44, 45, 46, 47, 48, 49, 50, 51, 52

## HEADER_32
designator J?
pins: 1, 2, 3, 4, 5, 6, 7, 8, 9, 10, 11, 12, 13, 14, 15, 16, 17, 18, 19, 20, 21, 22, 23, 24, 25, 26, 27, 28, 29, 30, 31, 32

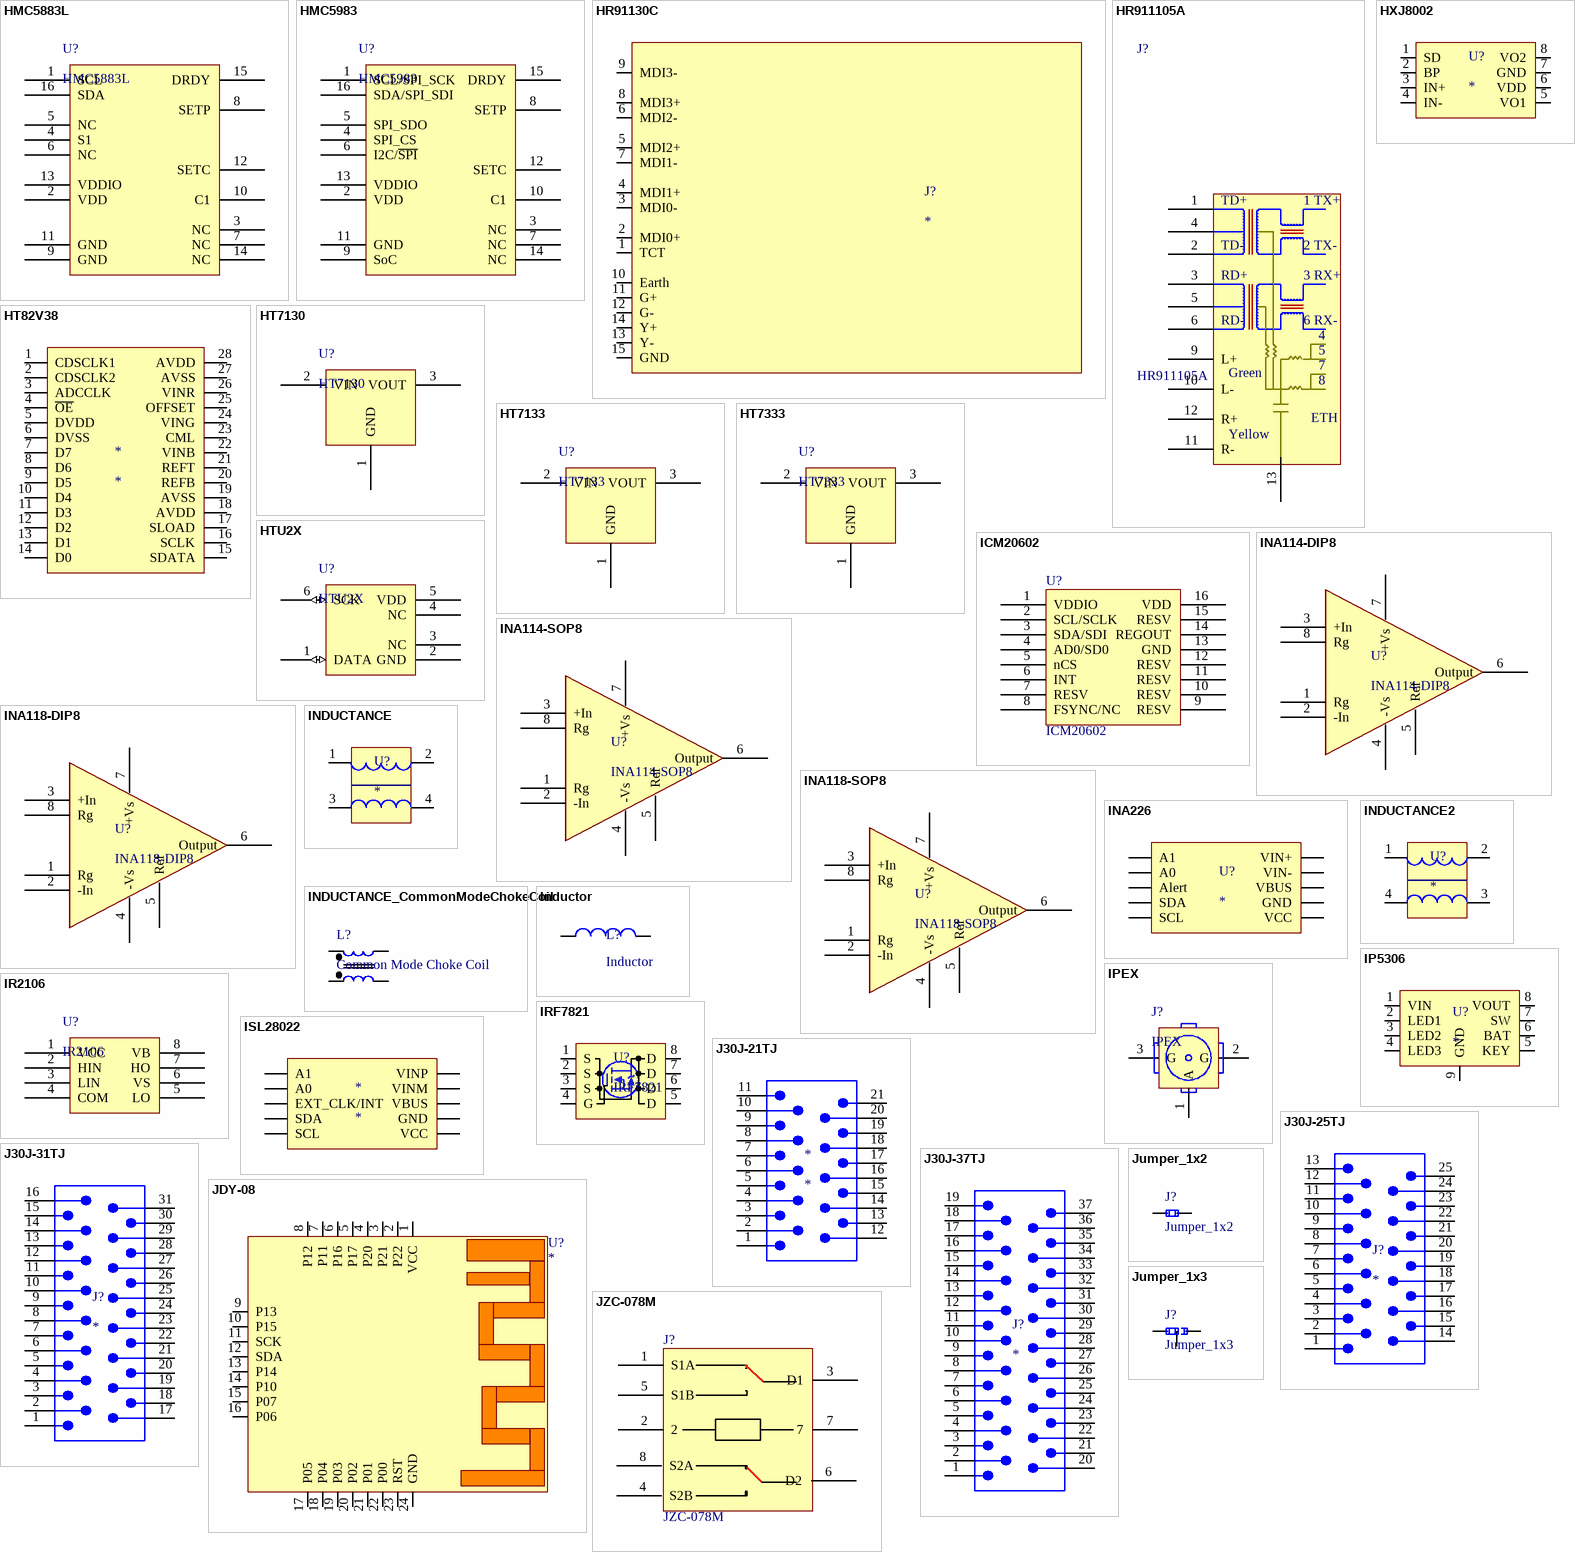
[diagram p10: symbols HMC5883L to JZC-078M]

## HMC5883L
designator U?
3-Axis Digital Compass IC
footprint HMC5883L (HMC5883L 3-Axis Digital Compass IC)
pins: 1 SCL, 2 VDD, 3 NC, 4 S1, 5 NC, 6 NC, 7 NC, 8 SETP, 9 GND, 10 C1, 11 GND, 12 SETC, 13 VDDIO, 14 NC, 15 DRDY, 16 SDA

## HMC5983
designator U?
3-Axis Digital Compass IC
footprint HMC5883L (HMC5883L 3-Axis Digital Compass IC)
pins: 1 SCL/SPI_SCK, 2 VDD, 3 NC, 4 SPI_CS, 5 SPI_SDO, 6 I2C/~{SPI}, 7 NC, 8 SETP, 9 SoC, 10 C1, 11 GND, 12 SETC, 13 VDDIO, 14 NC, 15 DRDY, 16 SDA/SPI_SDI

## HR91130C
designator J?
Single Port RJ45 Connector with Integrated Magnetics
footprint HR91130C (HR91130C, 18X21.6X15.21mm)
pins: 1 TCT, 2 MDI0+, 3 MDI0-, 4 MDI1+, 5 MDI2+, 6 MDI2-, 7 MDI1-, 8 MDI3+, 9 MDI3-, 10 Earth, 11 G+, 12 G-, 13 Y-, 14 Y+, 15 GND

## HR911105A
designator J?
footprint HR911105A
footprint HR911105A_N
pins: 1, 2, 3, 4, 5, 6, 9 L+, 10 L-, 11 R-, 12 R+, 13
2 alternate drawings of the same symbol
text: TD+; 1 TX+; TD-; 2 TX-; RD+; 3 RX+; RD-; 6 RX-; 7; Green; 8; ETH; Yellow

## HT82V38
designator *
pins: 1 CDSCLK1, 2 CDSCLK2, 3 ADCCLK, 4 ~{OE}, 5 DVDD, 6 DVSS, 7 D7, 8 D6, 9 D5, 10 D4, 11 D3, 12 D2, 13 D1, 14 D0, 15 SDATA, 16 SCLK, 17 SLOAD, 18 AVDD, 19 AVSS, 20 REFB, 21 REFT, 22 VINB, 23 CML, 24 VING, 25 OFFSET, 26 VINR, 27 AVSS, 28 AVDD

## HT7130
designator U?
footprint SOT-89 (SOT-89-3L SMT PACKAGE)
footprint TO-92 (TO-92 3 Pins THT Package)
pins: 1 GND, 2 VIN, 3 VOUT

## HT7133
designator U?
footprint SOT-89 (SOT-89-3L SMT PACKAGE)
footprint TO-92 (TO-92 3 Pins THT Package)
pins: 1 GND, 2 VIN, 3 VOUT

## HT7333
designator U?
footprint SOT-89 (SOT-89-3L SMT PACKAGE)
footprint TO-92 (TO-92 3 Pins THT Package)
pins: 1 GND, 2 VIN, 3 VOUT

## HTU2X
designator U?
Humidity and Temperature Sensor
footprint HTU2X (HTU2X, The outer dotted line represents the  outer dime  nsion of the DFN package)
pins: 1 DATA (io) "Serial  Data  , bidirectional", 2 GND (power) "Ground", 3 NC "Not Connected, floating", 4 NC "Not Connected, floating", 5 VDD (power) "Supply Voltage", 6 SCK (io) "Serial Clock, bidirectional"

## HXJ8002
designator U?
音频功放芯片
footprint SOP-8_M (8-Pin Small Outline Integrated Circuit 1.27 mm Pitch, IPC Low Density)
pins: 1 SD, 2 BP, 3 IN+, 4 IN-, 5 VO1, 6 VDD, 7 GND, 8 VO2

## ICM20602
designator U?
footprint QFN50P300X300X70-16N (QFN, 16-Leads, Body 3.1x3.1mm (max), Pitch 0.50mm, IPC Medium Density)
pins: 1 VDDIO, 2 SCL/SCLK, 3 SDA/SDI, 4 AD0/SD0, 5 nCS, 6 INT, 7 RESV, 8 FSYNC/NC, 9 RESV, 10 RESV, 11 RESV, 12 RESV, 13 GND, 14 REGOUT, 15 RESV, 16 VDD

## INA114-DIP8
designator U?
footprint INA114-DIP8
pins: 1 Rg, 2 -In, 3 +In, 4 -Vs, 5 Ref, 6 Output, 7 +Vs, 8 Rg

## INA114-SOP8
designator U?
footprint INA114-SOP8
pins: 1 Rg, 2 -In, 3 +In, 4 -Vs, 5 Ref, 6 Output, 7 +Vs, 8 Rg

## INA118-DIP8
designator U?
footprint INA118-DIP8
pins: 1 Rg, 2 -In, 3 +In, 4 -Vs, 5 Ref, 6 Output, 7 +Vs, 8 Rg

## INA118-SOP8
designator U?
footprint INA118-SOP8
pins: 1 Rg, 2 -In, 3 +In, 4 -Vs, 5 Ref, 6 Output, 7 +Vs, 8 Rg

## INA226
designator U?
电源监控芯片
footprint MSOP10
pins: 1 A1, 2 A0, 3 Alert, 4 SDA, 5 SCL, 6 VCC, 7 GND, 8 VBUS, 9 VIN-, 10 VIN+

## INDUCTANCE
designator U?
pins: 1, 2, 3, 4

## INDUCTANCE2
designator U?
pins: 1, 2, 3, 4

## INDUCTANCE_CommonModeChokeCoil
designator L?, comment Common Mode Choke Coil
Common Mode Choke Coils
footprint DLW5BT (DLW5BT Series (2020 Size) Common Mode Choke Coil Wire Wound Type for Large Current)
pins: 1, 2, 3, 4

## Inductor
designator L?
电感; Code_IEC: 1005; Value: XXuH; Published: 8-Jun-2000; LatestRevisionDate: 29-May-2009; LatestRevisionNote: IPC-7351 Footprint Added.; PackageReference: 0402-A; Publisher: Altium Limited; PackageDescription: Chip Inductor; Code_JEITA: 0402
footprint 电感10*12-33UH-5A
footprint 0630 (一体成型电感)
footprint 0805_RES_SMT
pins: 1, 2

## IP5306
designator U?
2.1A充电2.4A放电充放电一体芯片
footprint eSOP8
pins: 1 VIN, 2 LED1, 3 LED2, 4 LED3, 5 KEY, 6 BAT, 7 SW, 8 VOUT, 9 GND

## IPEX
designator J?
IPEX天线座
footprint IPEX-3x3mm (U.FL-R-SMT)
pins: 1 A, 2 G, 3 G

## IR2106
designator U?
The IR2106(4)(S) are high voltage,  high speed power MOSFET and  IGBT drivers with independent high  and low side referenced output channels.
footprint SOP-8 (8-Pin Small Outline Integrated Circuit 1.27 mm Pitch, IPC Low Density)
pins: 1 VCC, 2 HIN, 3 LIN, 4 COM, 5 LO, 6 VS, 7 HO, 8 VB

## IRF7821
designator U?
IRF7821 N-Channel Power MOSFET
footprint IRF7821 (IRF7821 Power MOSFET)
pins: 1 S, 2 S, 3 S, 4 G, 5 D, 6 D, 7 D, 8 D

## ISL28022
designator *
footprint MSOP10
pins: 1 A1, 2 A0, 3 EXT_CLK/INT, 4 SDA, 5 SCL, 6 VCC, 7 GND, 8 VBUS, 9 VINM, 10 VINP

## J30J-21TJ
designator *
插头装插针
footprint J30J-21TJN
pins: 1, 2, 3, 4, 5, 6, 7, 8, 9, 10, 11, 12, 13, 14, 15, 16, 17, 18, 19, 20, 21

## J30J-25TJ
designator J?
插头装插针
footprint J30J-25TJN
pins: 1, 2, 3, 4, 5, 6, 7, 8, 9, 10, 11, 12, 13, 14, 15, 16, 17, 18, 19, 20, 21, 22, 23, 24, 25

## J30J-31TJ
designator J?
插头装插针
pins: 1, 2, 3, 4, 5, 6, 7, 8, 9, 10, 11, 12, 13, 14, 15, 16, 17, 18, 19, 20, 21, 22, 23, 24, 25, 26, 27, 28, 29, 30, 31

## J30J-37TJ
designator J?
插头装插针
footprint J30J-37TJN
pins: 1, 2, 3, 4, 5, 6, 7, 8, 9, 10, 11, 12, 13, 14, 15, 16, 17, 18, 19, 20, 21, 22, 23, 24, 25, 26, 27, 28, 29, 30, 31, 32, 33, 34, 35, 36, 37

## JDY-08
designator U?
CC2541蓝牙模块
footprint JDY-08 (CC2541蓝牙模块)
pins: 1 VCC, 2 P22, 3 P21, 4 P20, 5 P17, 6 P16, 7 P11, 8 P12, 9 P13, 10 P15, 11 SCK, 12 SDA, 13 P14, 14 P10, 15 P07, 16 P06, 17 P05, 18 P04, 19 P03, 20 P02, 21 P01, 22 P00, 23 RST, 24 GND

## Jumper_1x2
designator J?
footprint Jumper_1x2_2MM (Jumper)
footprint Jumper_1x2_2.54MM (Jumper)
pins: 1, 2

## Jumper_1x3
designator J?
footprint Jumper_1x3_2.54MM (Jumper)
pins: 1, 2, 3

## JZC-078M
designator J?
电磁继电器
footprint JZC-078M
footprint JZC-078M
footprint JZC-078M
pins: 1 S1A, 2, 3 D1, 4 S2B, 5 S1B, 6 D2, 7, 8 S2A

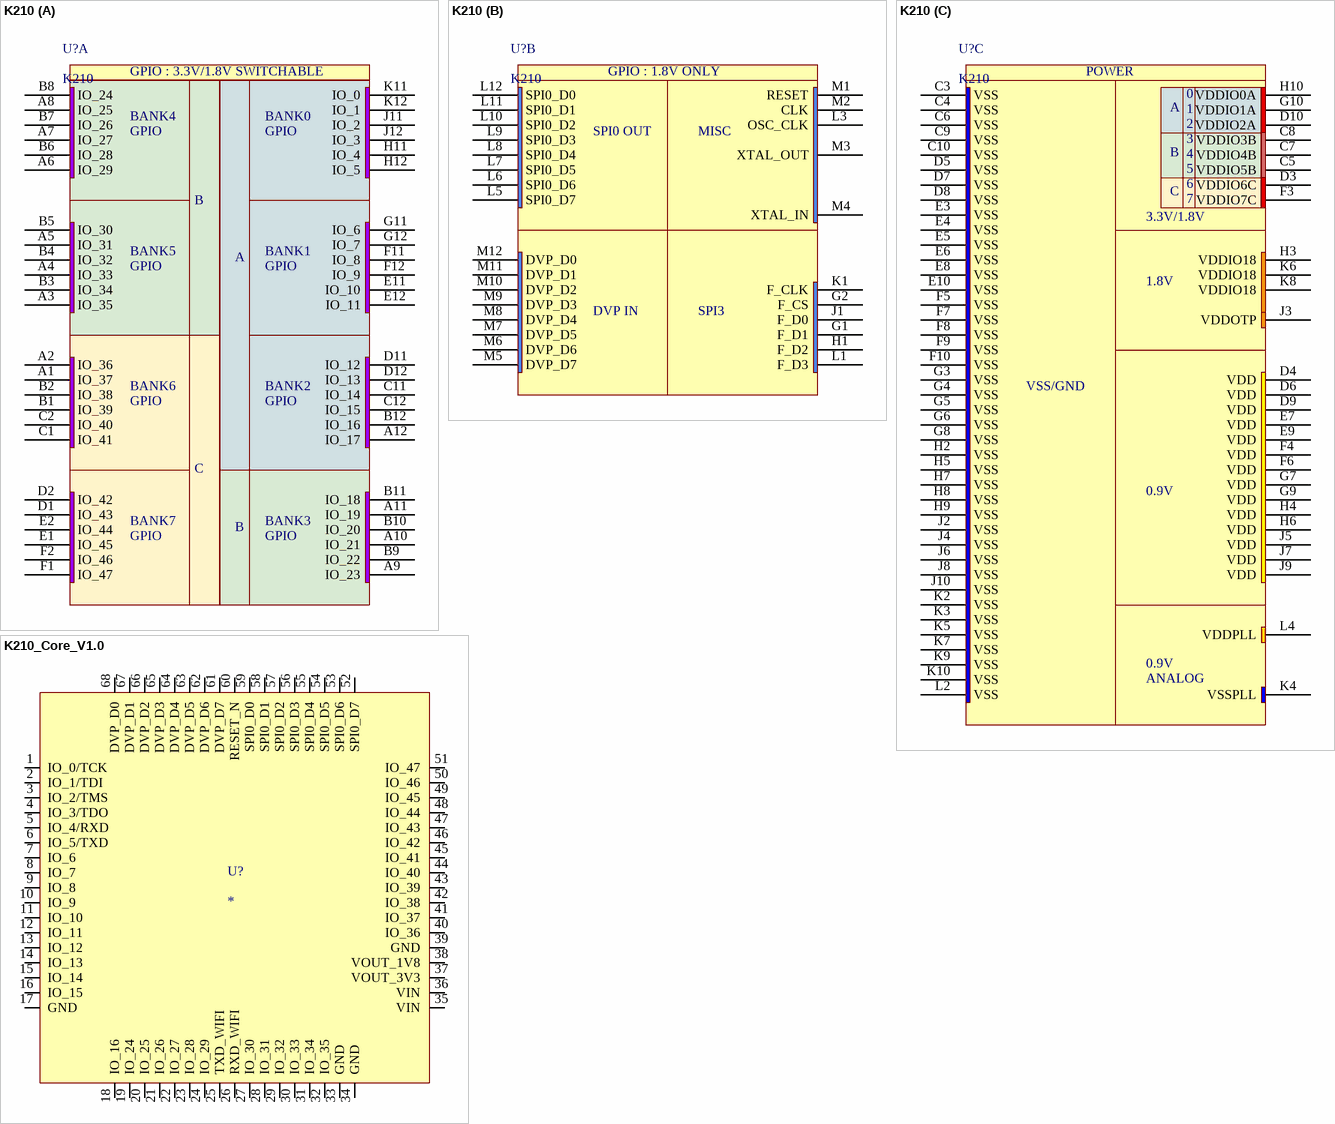
[diagram p11: symbols K210 to K210_Core_V1.0]

## K210
designator U?
Canaan Kendryte K210 AI SoC; VENDOR: CANAAN INC.
footprint BGA144C65P12X12_800X800X95 (BGA, 144-Leads, Body 8.00x8.00mmx0.95mm, Pitch 0.65mm)
part A pins: A1 IO_37 "Voltage switchable GPIO for FPIOA (3.3V or 1.8V). After reset is :  GPIOHS21.", A2 IO_36 "Voltage switchable GPIO for FPIOA (3.3V or 1.8V). After reset is :  GPIOHS20.", A3 IO_35 "Voltage switchable GPIO for FPIOA (3.3V or 1.8V). After reset is :  GPIOHS19.", A4 IO_33 "Voltage switchable GPIO for FPIOA (3.3V or 1.8V). After reset is :  GPIOHS17.", A5 IO_31 "Voltage switchable GPIO for FPIOA (3.3V or 1.8V). After reset is :  GPIOHS15.", A6 IO_29 "Voltage switchable GPIO for FPIOA (3.3V or 1.8V). After reset is :  GPIOHS13.", A7 IO_27 "Voltage switchable GPIO for FPIOA (3.3V or 1.8V). After reset is :  GPIOHS11.", A8 IO_25 "Voltage switchable GPIO for FPIOA (3.3V or 1.8V). After reset is :  GPIOHS9.", A9 IO_23 "Voltage switchable GPIO for FPIOA (3.3V or 1.8V). After reset is :  GPIOHS7.", A10 IO_21 "Voltage switchable GPIO for FPIOA (3.3V or 1.8V). After reset is :  GPIOHS5.", A11 IO_19 "Voltage switchable GPIO for FPIOA (3.3V or 1.8V). After reset is :  GPIOHS3.", A12 IO_17 "Voltage switchable GPIO for FPIOA (3.3V or 1.8V). After reset is :  GPIOHS1.", B1 IO_39 "Voltage switchable GPIO for FPIOA (3.3V or 1.8V). After reset is :  GPIOHS23.", B2 IO_38 "Voltage switchable GPIO for FPIOA (3.3V or 1.8V). After reset is :  GPIOHS22.", B3 IO_34 "Voltage switchable GPIO for FPIOA (3.3V or 1.8V). After reset is :  GPIOHS18.", B4 IO_32 "Voltage switchable GPIO for FPIOA (3.3V or 1.8V). After reset is :  GPIOHS16.", B5 IO_30 "Voltage switchable GPIO for FPIOA (3.3V or 1.8V). After reset is :  GPIOHS14.", B6 IO_28 "Voltage switchable GPIO for FPIOA (3.3V or 1.8V). After reset is :  GPIOHS12.", B7 IO_26 "Voltage switchable GPIO for FPIOA (3.3V or 1.8V). After reset is :  GPIOHS10.", B8 IO_24 "Voltage switchable GPIO for FPIOA (3.3V or 1.8V). After reset is :  GPIOHS8.", B9 IO_22 "Voltage switchable GPIO for FPIOA (3.3V or 1.8V). After reset is :  GPIOHS6.", B10 IO_20 "Voltage switchable GPIO for FPIOA (3.3V or 1.8V). After reset is :  GPIOHS4.", B11 IO_18 "Voltage switchable GPIO for FPIOA (3.3V or 1.8V). After reset is :  GPIOHS2.", B12 IO_16 "Voltage switchable GPIO for FPIOA (3.3V or 1.8V). After reset is :  GPIOHS0.", C1 IO_41 "Voltage switchable GPIO for FPIOA (3.3V or 1.8V). After reset is :  GPIOHS25.", C2 IO_40 "Voltage switchable GPIO for FPIOA (3.3V or 1.8V). After reset is :  GPIOHS24.", C11 IO_14 "Voltage switchable GPIO for FPIOA (3.3V or 1.8V). After reset is :  GPIO6.", C12 IO_15 "Voltage switchable GPIO for FPIOA (3.3V or 1.8V). After reset is :  GPIO7.", D1 IO_43 "Voltage switchable GPIO for FPIOA (3.3V or 1.8V). After reset is :  GPIOHS27.", D2 IO_42 "Voltage switchable GPIO for FPIOA (3.3V or 1.8V). After reset is :  GPIOHS26.", D11 IO_12 "Voltage switchable GPIO for FPIOA (3.3V or 1.8V). After reset is :  GPIO4.", D12 IO_13 "Voltage switchable GPIO for FPIOA (3.3V or 1.8V). After reset is :  GPIO5.", E1 IO_45 "Voltage switchable GPIO for FPIOA (3.3V or 1.8V). After reset is :  GPIOHS29.", E2 IO_44 "Voltage switchable GPIO for FPIOA (3.3V or 1.8V). After reset is :  GPIOHS28.", E11 IO_10 "Voltage switchable GPIO for FPIOA (3.3V or 1.8V). After reset is :  GPIO2.", E12 IO_11 "Voltage switchable GPIO for FPIOA (3.3V or 1.8V). After reset is :  GPIO3.", F1 IO_47 "Voltage switchable GPIO for FPIOA (3.3V or 1.8V). After reset is :  GPIOHS31.", F2 IO_46 "Voltage switchable GPIO for FPIOA (3.3V or 1.8V). After reset is :  GPIOHS30.", F11 IO_8 "Voltage switchable GPIO for FPIOA (3.3V or 1.8V). After reset is :  GPIO0.", F12 IO_9 "Voltage switchable GPIO for FPIOA (3.3V or 1.8V). After reset is :  GPIO1.", G11 IO_6 "Voltage switchable GPIO for FPIOA (3.3V or 1.8V). After reset is :  (FLOAT*).", G12 IO_7 "Voltage switchable GPIO for FPIOA (3.3V or 1.8V). After reset is :  (FLOAT*).", H11 IO_4 "Voltage switchable GPIO for FPIOA (3.3V or 1.8V). After reset is :  UARTHS_RX.", H12 IO_5 "Voltage switchable GPIO for FPIOA (3.3V or 1.8V). After reset is :  UARTHS_TX.", J11 IO_2 "Voltage switchable GPIO for FPIOA (3.3V or 1.8V). After reset is :  JTAG_TMS.", J12 IO_3 "Voltage switchable GPIO for FPIOA (3.3V or 1.8V). After reset is :  JTAG_TDO.", K11 IO_0 "Voltage switchable GPIO for FPIOA (3.3V or 1.8V). After reset is :  JTAG_TCLK.", K12 IO_1 "Voltage switchable GPIO for FPIOA (3.3V or 1.8V). After reset is :  JTAG_TDI."
part B pins: G1 F_D1 "Fixed 1.8V GPIO for SPI. After reset is :  F_D1.", G2 F_CS "Fixed 1.8V GPIO for SPI. After reset is :  F_CS.", H1 F_D2 "Fixed 1.8V GPIO for SPI. After reset is :  F_D2.", J1 F_D0 "Fixed 1.8V GPIO for SPI. After reset is :  F_D0.", K1 F_CLK "Fixed 1.8V GPIO for SPI. After reset is :  F_CLK.", L1 F_D3 "Fixed 1.8V GPIO for SPI. After reset is :  F_D3.", L3 OSC_CLK "Clock output for oscillator, based on external crystal. After reset is :  OSC_CLK.", L5 SPI0_D7 "Output only GPIO for SPI0 D7. After reset is :  (FLOAT*).", L6 SPI0_D6 "Output only GPIO for SPI0 D6. After reset is :  (FLOAT*).", L7 SPI0_D5 "Output only GPIO for SPI0 D5. After reset is :  (FLOAT*).", L8 SPI0_D4 "Output only GPIO for SPI0 D4. After reset is :  (FLOAT*).", L9 SPI0_D3 "Output only GPIO for SPI0 D3. After reset is :  (FLOAT*).", L10 SPI0_D2 "Output only GPIO for SPI0 D2. After reset is :  (FLOAT*).", L11 SPI0_D1 "Output only GPIO for SPI0 D1. After reset is :  (FLOAT*).", L12 SPI0_D0 "Output only GPIO for SPI0 D0. After reset is :  (FLOAT*).", M1 RESET "System Reset (LOW reset). After reset is :  RESET.", M2 CLK "System clock input. After reset is :  CLK.", M3 XTAL_OUT "External crystal output, non fail-safe, can't connect active signal during power failure. After reset is :  XTAL_OUT.", M4 XTAL_IN "External crystal input, non fail-safe, can't connect active signal during power failure. After reset is :  XTAL_IN.", M5 DVP_D7 "Input only GPIO for DVP D7. After reset is :  (FLOAT*).", M6 DVP_D6 "Input only GPIO for DVP D6. After reset is :  (FLOAT*).", M7 DVP_D5 "Input only GPIO for DVP D5. After reset is :  (FLOAT*).", M8 DVP_D4 "Input only GPIO for DVP D4. After reset is :  (FLOAT*).", M9 DVP_D3 "Input only GPIO for DVP D3. After reset is :  (FLOAT*).", M10 DVP_D2 "Input only GPIO for DVP D2. After reset is :  (FLOAT*).", M11 DVP_D1 "Input only GPIO for DVP D1. After reset is :  (FLOAT*).", M12 DVP_D0 "Input only GPIO for DVP D0. After reset is :  (FLOAT*)."
part C pins: C3 VSS (power) "Ground. After reset is :  VSS.", C4 VSS (power) "Ground. After reset is :  VSS.", C5 VDDIO5B (power) "3.3V Power supply for voltage switchable GPIO. After reset is :  VDDIO33.", C6 VSS (power) "Ground. After reset is :  VSS.", C7 VDDIO4B (power) "3.3V Power supply for voltage switchable GPIO. After reset is :  VDDIO33.", C8 VDDIO3B (power) "3.3V Power supply for voltage switchable GPIO. After reset is :  VDDIO33.", C9 VSS (power) "Ground. After reset is :  VSS.", C10 VSS (power) "Ground. After reset is :  VSS.", D3 VDDIO6C (power) "3.3V Power supply for voltage switchable GPIO. After reset is :  VDDIO33.", D4 VDD (power) "0.9V Power supply for digital core. After reset is :  VDD.", D5 VSS (power) "Ground. After reset is :  VSS.", D6 VDD (power) "0.9V Power supply for digital core. After reset is :  VDD.", D7 VSS (power) "Ground. After reset is :  VSS.", D8 VSS (power) "Ground. After reset is :  VSS.", D9 VDD (power) "0.9V Power supply for digital core. After reset is :  VDD.", D10 VDDIO2A (power) "3.3V Power supply for voltage switchable GPIO. After reset is :  VDDIO33.", E3 VSS (power) "Ground. After reset is :  VSS.", E4 VSS (power) "Ground. After reset is :  VSS.", E5 VSS (power) "Ground. After reset is :  VSS.", E6 VSS (power) "Ground. After reset is :  VSS.", E7 VDD (power) "0.9V Power supply for digital core. After reset is :  VDD.", E8 VSS (power) "Ground. After reset is :  VSS.", E9 VDD (power) "0.9V Power supply for digital core. After reset is :  VDD.", E10 VSS (power) "Ground. After reset is :  VSS.", F3 VDDIO7C (power) "3.3V Power supply for voltage switchable GPIO. After reset is :  VDDIO33.", F4 VDD (power) "0.9V Power supply for digital core. After reset is :  VDD.", F5 VSS (power) "Ground. After reset is :  VSS.", F6 VDD (power) "0.9V Power supply for digital core. After reset is :  VDD.", F7 VSS (power) "Ground. After reset is :  VSS.", F8 VSS (power) "Ground. After reset is :  VSS.", F9 VSS (power) "Ground. After reset is :  VSS.", F10 VSS (power) "Ground. After reset is :  VSS.", G3 VSS (power) "Ground. After reset is :  VSS.", G4 VSS (power) "Ground. After reset is :  VSS.", G5 VSS (power) "Ground. After reset is :  VSS.", G6 VSS (power) "Ground. After reset is :  VSS.", G7 VDD (power) "0.9V Power supply for digital core. After reset is :  VDD.", G8 VSS (power) "Ground. After reset is :  VSS.", G9 VDD (power) "0.9V Power supply for digital core. After reset is :  VDD.", G10 VDDIO1A (power) "3.3V Power supply for voltage switchable GPIO. After reset is :  VDDIO33.", H2 VSS (power) "Ground. After reset is :  VSS.", H3 VDDIO18 (power) "1.8V Power supply for GPIO. After reset is :  VDDIO18.", H4 VDD (power) "0.9V Power supply for digital core. After reset is :  VDD.", H5 VSS (power) "Ground. After reset is :  VSS.", H6 VDD (power) "0.9V Power supply for digital core. After reset is :  VDD.", H7 VSS (power) "Ground. After reset is :  VSS.", H8 VSS (power) "Ground. After reset is :  VSS.", H9 VSS (power) "Ground. After reset is :  VSS.", H10 VDDIO0A (power) "3.3V Power supply for voltage switchable GPIO. After reset is :  VDDIO33.", J2 VSS (power) "Ground. After reset is :  VSS.", J3 VDDOTP (power) "1.8V Power supply for OTP. After reset is :  VDDOTP.", J4 VSS (power) "Ground. After reset is :  VSS.", J5 VDD (power) "0.9V Power supply for digital core. After reset is :  VDD.", J6 VSS (power) "Ground. After reset is :  VSS.", J7 VDD (power) "0.9V Power supply for digital core. After reset is :  VDD.", J8 VSS (power) "Ground. After reset is :  VSS.", J9 VDD (power) "0.9V Power supply for digital core. After reset is :  VDD.", J10 VSS (power) "Ground. After reset is :  VSS.", K2 VSS (power) "Ground. After reset is :  VSS.", K3 VSS (power) "Ground. After reset is :  VSS.", K4 VSSPLL (power) "Analog Ground. for PLL. After reset is :  VSSPLL.", K5 VSS (power) "Ground. After reset is :  VSS.", K6 VDDIO18 (power) "1.8V Power supply for GPIO. After reset is :  VDDIO18.", K7 VSS (power) "Ground. After reset is :  VSS.", K8 VDDIO18 (power) "1.8V Power supply for GPIO. After reset is :  VDDIO18.", K9 VSS (power) "Ground. After reset is :  VSS.", K10 VSS (power) "Ground. After reset is :  VSS.", L2 VSS (power) "Ground. After reset is :  VSS.", L4 VDDPLL (power) "0.9V Analog Power supply for PLL. After reset is :  VDDPLL."
part A text: GPIO : 3.3V/1.8V SWITCHABLE; BANK4; BANK0; GPIO; B; BANK5; BANK1; A; BANK6; BANK2; C; BANK7; BANK3
part B text: GPIO : 1.8V ONLY; SPI0 OUT; MISC; DVP IN; SPI3
part C text: POWER; 0; A; 1; 2; 3; B; 4; 5; 6; C; 7; 3.3V/1.8V; 1.8V; VSS/GND; 0.9V; ANALOG

## K210_Core_V1.0
designator U?
footprint K210_Core_V1.0
pins: 1 IO_0/TCK, 2 IO_1/TDI, 3 IO_2/TMS, 4 IO_3/TDO, 5 IO_4/RXD, 6 IO_5/TXD, 7 IO_6, 8 IO_7, 9 IO_8, 10 IO_9, 11 IO_10, 12 IO_11, 13 IO_12, 14 IO_13, 15 IO_14, 16 IO_15, 17 GND, 18 IO_16, 19 IO_24, 20 IO_25, 21 IO_26, 22 IO_27, 23 IO_28, 24 IO_29, 25 TXD_WIFI, 26 RXD_WIFI, 27 IO_30, 28 IO_31, 29 IO_32, 30 IO_33, 31 IO_34, 32 IO_35, 33 GND, 34 GND, 35 VIN, 36 VIN, 37 VOUT_3V3, 38 VOUT_1V8, 39 GND, 40 IO_36, 41 IO_37, 42 IO_38, 43 IO_39, 44 IO_40, 45 IO_41, 46 IO_42, 47 IO_43, 48 IO_44, 49 IO_45, 50 IO_46, 51 IO_47, 52 SPI0_D7, 53 SPI0_D6, 54 SPI0_D5, 55 SPI0_D4, 56 SPI0_D3, 57 SPI0_D2, 58 SPI0_D1, 59 SPI0_D0, 60 RESET_N, 61 DVP_D7, 62 DVP_D6, 63 DVP_D5, 64 DVP_D4, 65 DVP_D3, 66 DVP_D2, 67 DVP_D1, 68 DVP_D0

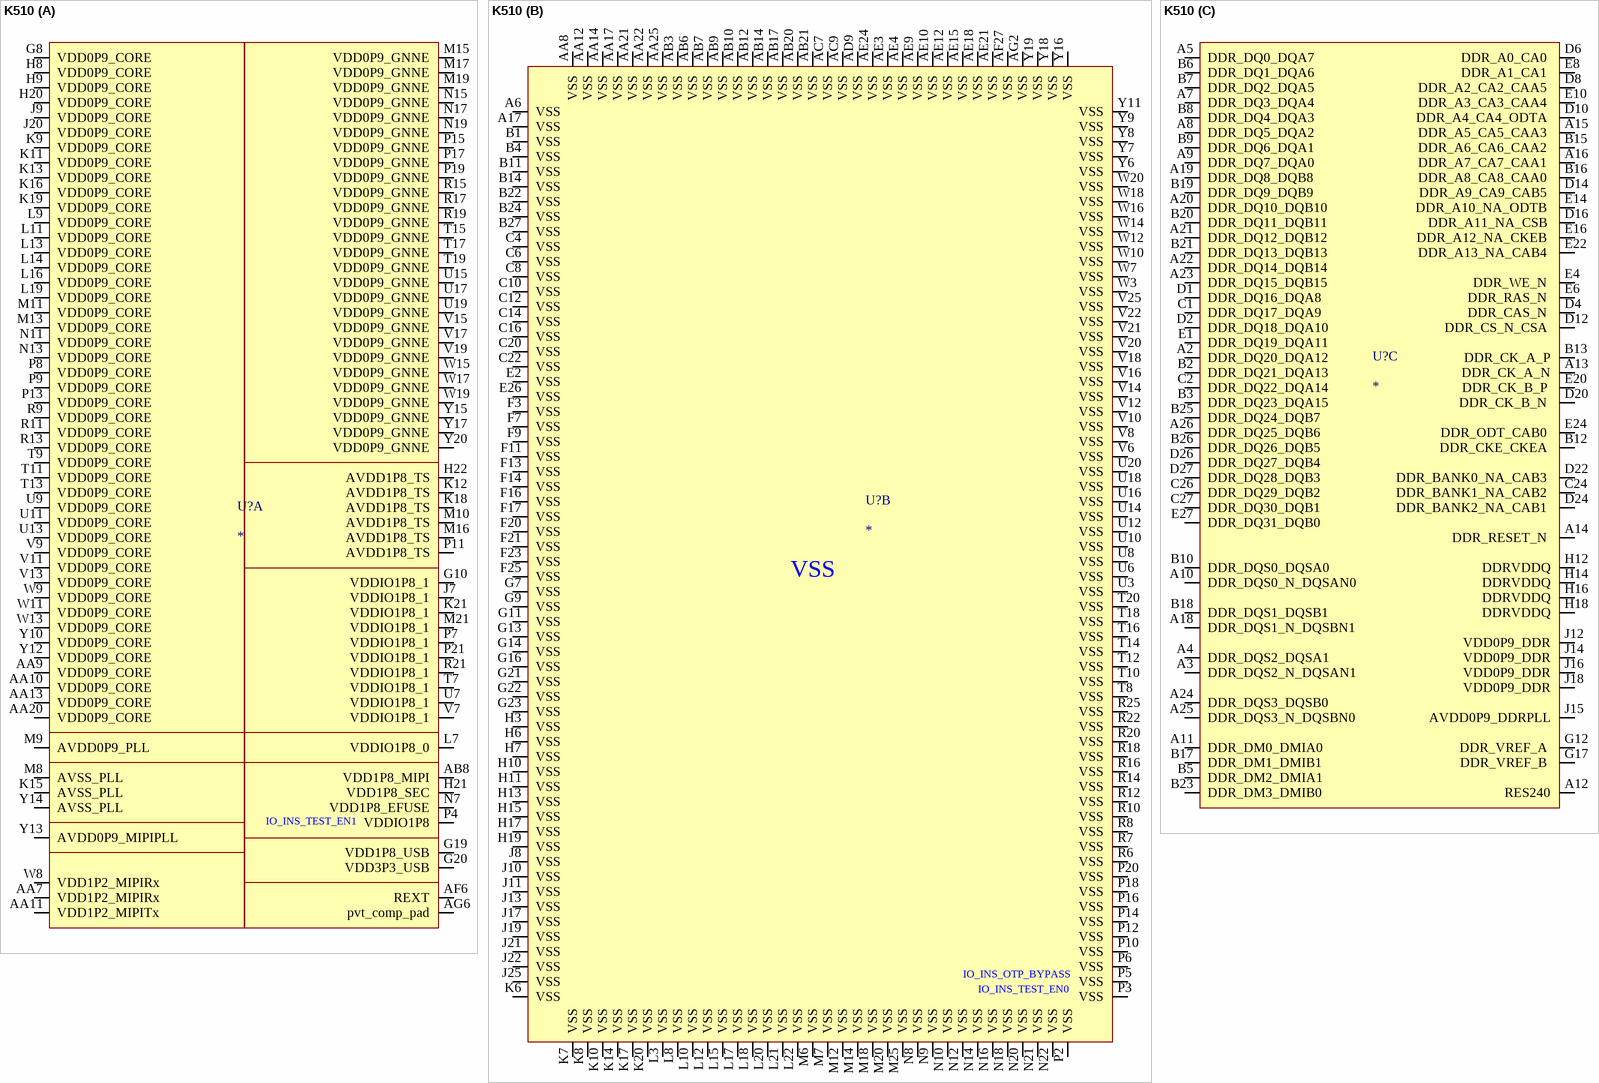
[diagram p12: symbol K510]

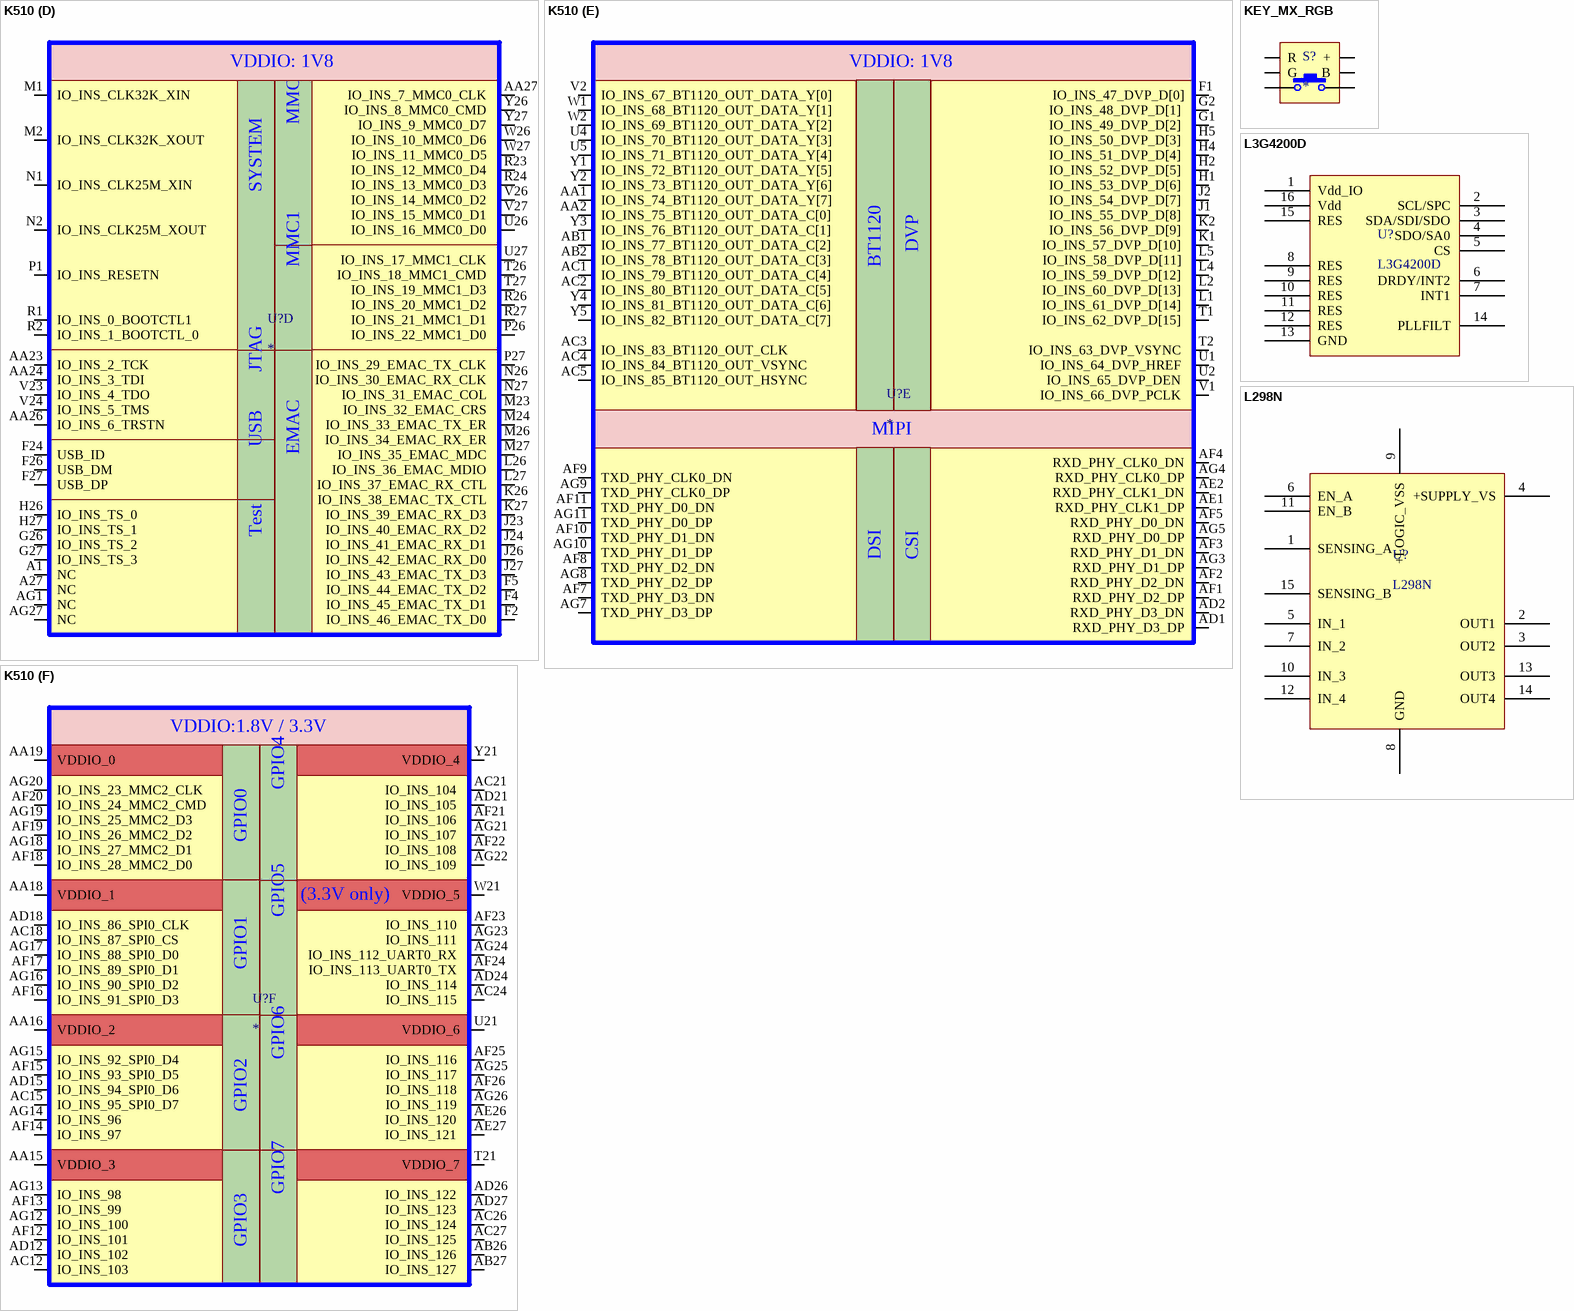
[diagram p13: symbols K510 to L298N]

## K510
designator U?
footprint K510 (14x14mm，ball=0.25mm，pitch=0.5mm)
part A pins: AA7 VDD1P2_MIPIRx, AA9 VDD0P9_CORE, AA10 VDD0P9_CORE, AA11 VDD1P2_MIPITx, AA13 VDD0P9_CORE, AA20 VDD0P9_CORE, AB8 VDD1P8_MIPI, AF6 REXT, AG6 pvt_comp_pad, G8 VDD0P9_CORE, G10 VDDIO1P8_1, G19 VDD1P8_USB, G20 VDD3P3_USB, H8 VDD0P9_CORE, H9 VDD0P9_CORE, H20 VDD0P9_CORE, H21 VDD1P8_SEC, H22 AVDD1P8_TS, J7 VDDIO1P8_1, J9 VDD0P9_CORE, J20 VDD0P9_CORE, K9 VDD0P9_CORE, K11 VDD0P9_CORE, K12 AVDD1P8_TS, K13 VDD0P9_CORE, K15 AVSS_PLL, K16 VDD0P9_CORE, K18 AVDD1P8_TS, K19 VDD0P9_CORE, K21 VDDIO1P8_1, L7 VDDIO1P8_0, L9 VDD0P9_CORE, L11 VDD0P9_CORE, L13 VDD0P9_CORE, L14 VDD0P9_CORE, L16 VDD0P9_CORE, L19 VDD0P9_CORE, M8 AVSS_PLL, M9 AVDD0P9_PLL, M10 AVDD1P8_TS, M11 VDD0P9_CORE, M13 VDD0P9_CORE, M15 VDD0P9_GNNE, M16 AVDD1P8_TS, M17 VDD0P9_GNNE, M19 VDD0P9_GNNE, M21 VDDIO1P8_1, N7 VDD1P8_EFUSE, N11 VDD0P9_CORE, N13 VDD0P9_CORE, N15 VDD0P9_GNNE, N17 VDD0P9_GNNE, N19 VDD0P9_GNNE, P4 VDDIO1P8, P7 VDDIO1P8_1, P8 VDD0P9_CORE, P9 VDD0P9_CORE, P11 AVDD1P8_TS, P13 VDD0P9_CORE, P15 VDD0P9_GNNE, P17 VDD0P9_GNNE, P19 VDD0P9_GNNE, P21 VDDIO1P8_1, R9 VDD0P9_CORE, R11 VDD0P9_CORE, R13 VDD0P9_CORE, R15 VDD0P9_GNNE, R17 VDD0P9_GNNE, R19 VDD0P9_GNNE, R21 VDDIO1P8_1, T7 VDDIO1P8_1, T9 VDD0P9_CORE, T11 VDD0P9_CORE, T13 VDD0P9_CORE, T15 VDD0P9_GNNE, T17 VDD0P9_GNNE, T19 VDD0P9_GNNE, U7 VDDIO1P8_1, U9 VDD0P9_CORE, U11 VDD0P9_CORE, U13 VDD0P9_CORE, U15 VDD0P9_GNNE, U17 VDD0P9_GNNE, U19 VDD0P9_GNNE, V7 VDDIO1P8_1, V9 VDD0P9_CORE, V11 VDD0P9_CORE, V13 VDD0P9_CORE, V15 VDD0P9_GNNE, V17 VDD0P9_GNNE, V19 VDD0P9_GNNE, W8 VDD1P2_MIPIRx, W9 VDD0P9_CORE, W11 VDD0P9_CORE, W13 VDD0P9_CORE, W15 VDD0P9_GNNE, W17 VDD0P9_GNNE, W19 VDD0P9_GNNE, Y10 VDD0P9_CORE, Y12 VDD0P9_CORE, Y13 AVDD0P9_MIPIPLL, Y14 AVSS_PLL, Y15 VDD0P9_GNNE, Y17 VDD0P9_GNNE, Y20 VDD0P9_GNNE
part B pins: A6 VSS, A17 VSS, AA8 VSS, AA12 VSS, AA14 VSS, AA17 VSS, AA21 VSS, AA22 VSS, AA25 VSS, AB3 VSS, AB6 VSS, AB7 VSS, AB9 VSS, AB10 VSS, AB12 VSS, AB14 VSS, AB17 VSS, AB20 VSS, AB21 VSS, AC7 VSS, AC9 VSS, AD9 VSS, AE3 VSS, AE4 VSS, AE9 VSS, AE10 VSS, AE12 VSS, AE15 VSS, AE18 VSS, AE21 VSS, AE24 VSS, AF27 VSS, AG2 VSS, B1 VSS, B4 VSS, B11 VSS, B14 VSS, B22 VSS, B24 VSS, B27 VSS, C4 VSS, C6 VSS, C8 VSS, C10 VSS, C12 VSS, C14 VSS, C16 VSS, C20 VSS, C22 VSS, E2 VSS, E26 VSS, F3 VSS, F7 VSS, F9 VSS, F11 VSS, F13 VSS, F14 VSS, F16 VSS, F17 VSS, F20 VSS, F21 VSS, F23 VSS, F25 VSS, G7 VSS, G9 VSS, G11 VSS, G13 VSS, G14 VSS, G16 VSS, G21 VSS, G22 VSS, G23 VSS, H3 VSS, H6 VSS, H7 VSS, H10 VSS, H11 VSS, H13 VSS, H15 VSS, H17 VSS, H19 VSS, J8 VSS, J10 VSS, J11 VSS, J13 VSS, J17 VSS, J19 VSS, J21 VSS, J22 VSS, J25 VSS, K6 VSS, K7 VSS, K8 VSS, K10 VSS, K14 VSS, K17 VSS, K20 VSS, L3 VSS, L8 VSS, L10 VSS, L12 VSS, L15 VSS, L17 VSS, L18 VSS, L20 VSS, L21 VSS, L22 VSS, M6 VSS, M7 VSS, M12 VSS, M14 VSS, M18 VSS, M20 VSS, M25 VSS, N8 VSS, N9 VSS, N10 VSS, N12 VSS, N14 VSS, N16 VSS, N18 VSS, N20 VSS, N21 VSS, N22 VSS, P2 VSS, P3 VSS, P5 VSS, P6 VSS, P10 VSS, P12 VSS, P14 VSS, P16 VSS, P18 VSS, P20 VSS, R6 VSS, R7 VSS, R8 VSS, R10 VSS, R12 VSS, R14 VSS, R16 VSS, R18 VSS, R20 VSS, R22 VSS, R25 VSS, T8 VSS, T10 VSS, T12 VSS, T14 VSS, T16 VSS, T18 VSS, T20 VSS, U3 VSS, U6 VSS, U8 VSS, U10 VSS, U12 VSS, U14 VSS, U16 VSS, U18 VSS, U20 VSS, V6 VSS, V8 VSS, V10 VSS, V12 VSS, V14 VSS, V16 VSS, V18 VSS, V20 VSS, V21 VSS, V22 VSS, V25 VSS, W3 VSS, W7 VSS, W10 VSS, W12 VSS, W14 VSS, W16 VSS, W18 VSS, W20 VSS, Y6 VSS, Y7 VSS, Y8 VSS, Y9 VSS, Y11 VSS, Y16 VSS, Y18 VSS, Y19 VSS
part C pins: A2 DDR_DQ20_DQA12 , A3 DDR_DQS2_N_DQSAN1 , A4 DDR_DQS2_DQSA1 , A5 DDR_DQ0_DQA7 , A7 DDR_DQ3_DQA4 , A8 DDR_DQ5_DQA2 , A9 DDR_DQ7_DQA0 , A10 DDR_DQS0_N_DQSAN0 , A11 DDR_DM0_DMIA0 , A12 RES240, A13 DDR_CK_A_N, A14 DDR_RESET_N , A15 DDR_A5_CA5_CAA3 , A16 DDR_A7_CA7_CAA1 , A18 DDR_DQS1_N_DQSBN1 , A19 DDR_DQ8_DQB8 , A20 DDR_DQ10_DQB10 , A21 DDR_DQ12_DQB12 , A22 DDR_DQ14_DQB14 , A23 DDR_DQ15_DQB15 , A24 DDR_DQS3_DQSB0 , A25 DDR_DQS3_N_DQSBN0 , A26 DDR_DQ25_DQB6 , B2 DDR_DQ21_DQA13 , B3 DDR_DQ23_DQA15 , B5 DDR_DM2_DMIA1 , B6 DDR_DQ1_DQA6 , B7 DDR_DQ2_DQA5 , B8 DDR_DQ4_DQA3 , B9 DDR_DQ6_DQA1 , B10 DDR_DQS0_DQSA0 , B12 DDR_CKE_CKEA , B13 DDR_CK_A_P, B15 DDR_A6_CA6_CAA2 , B16 DDR_A8_CA8_CAA0 , B17 DDR_DM1_DMIB1 , B18 DDR_DQS1_DQSB1 , B19 DDR_DQ9_DQB9 , B20 DDR_DQ11_DQB11 , B21 DDR_DQ13_DQB13 , B23 DDR_DM3_DMIB0 , B25 DDR_DQ24_DQB7 , B26 DDR_DQ26_DQB5 , C1 DDR_DQ17_DQA9 , C2 DDR_DQ22_DQA14 , C24 DDR_BANK1_NA_CAB2 , C26 DDR_DQ29_DQB2 , C27 DDR_DQ30_DQB1 , D1 DDR_DQ16_DQA8 , D2 DDR_DQ18_DQA10 , D4 DDR_CAS_N , D6 DDR_A0_CA0 , D8 DDR_A2_CA2_CAA5 , D10 DDR_A4_CA4_ODTA , D12 DDR_CS_N_CSA , D14 DDR_A9_CA9_CAB5 , D16 DDR_A11_NA_CSB , D20 DDR_CK_B_N , D22 DDR_BANK0_NA_CAB3 , D24 DDR_BANK2_NA_CAB1 , D26 DDR_DQ27_DQB4 , D27 DDR_DQ28_DQB3 , E1 DDR_DQ19_DQA11 , E4 DDR_WE_N , E6 DDR_RAS_N , E8 DDR_A1_CA1 , E10 DDR_A3_CA3_CAA4 , E14 DDR_A10_NA_ODTB , E16 DDR_A12_NA_CKEB , E20 DDR_CK_B_P , E22 DDR_A13_NA_CAB4 , E24 DDR_ODT_CAB0 , E27 DDR_DQ31_DQB0 , G12 DDR_VREF_A , G17 DDR_VREF_B , H12 DDRVDDQ, H14 DDRVDDQ, H16 DDRVDDQ, H18 DDRVDDQ, J12 VDD0P9_DDR, J14 VDD0P9_DDR, J15 AVDD0P9_DDRPLL, J16 VDD0P9_DDR, J18 VDD0P9_DDR
part D pins: A1 NC, A27 NC, AA23 IO_INS_2_TCK, AA24 IO_INS_3_TDI, AA26 IO_INS_6_TRSTN, AA27 IO_INS_7_MMC0_CLK , AG1 NC, AG27 NC, F2 IO_INS_46_EMAC_TX_D0 , F4 IO_INS_45_EMAC_TX_D1 , F5 IO_INS_44_EMAC_TX_D2 , F24 USB_ID, F26 USB_DM, F27 USB_DP, G26 IO_INS_TS_2, G27 IO_INS_TS_3, H26 IO_INS_TS_0, H27 IO_INS_TS_1, J23 IO_INS_40_EMAC_RX_D2 , J24 IO_INS_41_EMAC_RX_D1 , J26 IO_INS_42_EMAC_RX_D0 , J27 IO_INS_43_EMAC_TX_D3 , K26 IO_INS_38_EMAC_TX_CTL , K27 IO_INS_39_EMAC_RX_D3 , L26 IO_INS_36_EMAC_MDIO , L27 IO_INS_37_EMAC_RX_CTL , M1 IO_INS_CLK32K_XIN, M2 IO_INS_CLK32K_XOUT , M23 IO_INS_32_EMAC_CRS , M24 IO_INS_33_EMAC_TX_ER , M26 IO_INS_34_EMAC_RX_ER , M27 IO_INS_35_EMAC_MDC , N1 IO_INS_CLK25M_XIN , N2 IO_INS_CLK25M_XOUT , N26 IO_INS_30_EMAC_RX_CLK , N27 IO_INS_31_EMAC_COL , P1 IO_INS_RESETN, P26 IO_INS_22_MMC1_D0 , P27 IO_INS_29_EMAC_TX_CLK , R1 IO_INS_0_BOOTCTL1 , R2 IO_INS_1_BOOTCTL_0, R23 IO_INS_12_MMC0_D4 , R24 IO_INS_13_MMC0_D3 , R26 IO_INS_20_MMC1_D2 , R27 IO_INS_21_MMC1_D1 , T26 IO_INS_18_MMC1_CMD , T27 IO_INS_19_MMC1_D3 , U26 IO_INS_16_MMC0_D0 , U27 IO_INS_17_MMC1_CLK , V23 IO_INS_4_TDO, V24 IO_INS_5_TMS, V26 IO_INS_14_MMC0_D2 , V27 IO_INS_15_MMC0_D1 , W26 IO_INS_10_MMC0_D6 , W27 IO_INS_11_MMC0_D5 , Y26 IO_INS_8_MMC0_CMD , Y27 IO_INS_9_MMC0_D7 
part E pins: AA1 IO_INS_74_BT1120_OUT_DATA_Y[7] , AA2 IO_INS_75_BT1120_OUT_DATA_C[0] , AB1 IO_INS_77_BT1120_OUT_DATA_C[2] , AB2 IO_INS_78_BT1120_OUT_DATA_C[3] , AC1 IO_INS_79_BT1120_OUT_DATA_C[4] , AC2 IO_INS_80_BT1120_OUT_DATA_C[5] , AC3 IO_INS_83_BT1120_OUT_CLK, AC4 IO_INS_84_BT1120_OUT_VSYNC, AC5 IO_INS_85_BT1120_OUT_HSYNC, AD1 RXD_PHY_D3_DP, AD2 RXD_PHY_D3_DN, AE1 RXD_PHY_CLK1_DP, AE2 RXD_PHY_CLK1_DN, AF1 RXD_PHY_D2_DP, AF2 RXD_PHY_D2_DN, AF3 RXD_PHY_D1_DN, AF4 RXD_PHY_CLK0_DN, AF5 RXD_PHY_D0_DN, AF7 TXD_PHY_D3_DN, AF8 TXD_PHY_D2_DN, AF9 TXD_PHY_CLK0_DN, AF10 TXD_PHY_D1_DN, AF11 TXD_PHY_D0_DN, AG3 RXD_PHY_D1_DP, AG4 RXD_PHY_CLK0_DP, AG5 RXD_PHY_D0_DP, AG7 TXD_PHY_D3_DP, AG8 TXD_PHY_D2_DP, AG9 TXD_PHY_CLK0_DP, AG10 TXD_PHY_D1_DP, AG11 TXD_PHY_D0_DP, F1 IO_INS_47_DVP_D[0], G1 IO_INS_49_DVP_D[2] , G2 IO_INS_48_DVP_D[1] , H1 IO_INS_53_DVP_D[6] , H2 IO_INS_52_DVP_D[5] , H4 IO_INS_51_DVP_D[4] , H5 IO_INS_50_DVP_D[3] , J1 IO_INS_55_DVP_D[8] , J2 IO_INS_54_DVP_D[7] , K1 IO_INS_57_DVP_D[10] , K2 IO_INS_56_DVP_D[9] , L1 IO_INS_61_DVP_D[14] , L2 IO_INS_60_DVP_D[13] , L4 IO_INS_59_DVP_D[12] , L5 IO_INS_58_DVP_D[11] , T1 IO_INS_62_DVP_D[15] , T2 IO_INS_63_DVP_VSYNC , U1 IO_INS_64_DVP_HREF , U2 IO_INS_65_DVP_DEN , U4 IO_INS_70_BT1120_OUT_DATA_Y[3] , U5 IO_INS_71_BT1120_OUT_DATA_Y[4] , V1 IO_INS_66_DVP_PCLK , V2 IO_INS_67_BT1120_OUT_DATA_Y[0] , W1 IO_INS_68_BT1120_OUT_DATA_Y[1] , W2 IO_INS_69_BT1120_OUT_DATA_Y[2] , Y1 IO_INS_72_BT1120_OUT_DATA_Y[5] , Y2 IO_INS_73_BT1120_OUT_DATA_Y[6] , Y3 IO_INS_76_BT1120_OUT_DATA_C[1] , Y4 IO_INS_81_BT1120_OUT_DATA_C[6] , Y5 IO_INS_82_BT1120_OUT_DATA_C[7] 
part F pins: AA15 VDDIO_3, AA16 VDDIO_2, AA18 VDDIO_1, AA19 VDDIO_0, AB26 IO_INS_126 , AB27 IO_INS_127 , AC12 IO_INS_103 , AC15 IO_INS_95_SPI0_D7 , AC18 IO_INS_87_SPI0_CS , AC21 IO_INS_104 , AC24 IO_INS_115 , AC26 IO_INS_124 , AC27 IO_INS_125 , AD12 IO_INS_102 , AD15 IO_INS_94_SPI0_D6 , AD18 IO_INS_86_SPI0_CLK , AD21 IO_INS_105 , AD24 IO_INS_114 , AD26 IO_INS_122 , AD27 IO_INS_123 , AE26 IO_INS_120 , AE27 IO_INS_121 , AF12 IO_INS_101 , AF13 IO_INS_99 , AF14 IO_INS_97 , AF15 IO_INS_93_SPI0_D5 , AF16 IO_INS_91_SPI0_D3 , AF17 IO_INS_89_SPI0_D1 , AF18 IO_INS_28_MMC2_D0 , AF19 IO_INS_26_MMC2_D2 , AF20 IO_INS_24_MMC2_CMD , AF21 IO_INS_106 , AF22 IO_INS_108 , AF23 IO_INS_110 , AF24 IO_INS_113_UART0_TX , AF25 IO_INS_116 , AF26 IO_INS_118 , AG12 IO_INS_100 , AG13 IO_INS_98 , AG14 IO_INS_96 , AG15 IO_INS_92_SPI0_D4 , AG16 IO_INS_90_SPI0_D2 , AG17 IO_INS_88_SPI0_D0 , AG18 IO_INS_27_MMC2_D1 , AG19 IO_INS_25_MMC2_D3 , AG20 IO_INS_23_MMC2_CLK , AG21 IO_INS_107 , AG22 IO_INS_109 , AG23 IO_INS_111 , AG24 IO_INS_112_UART0_RX , AG25 IO_INS_117 , AG26 IO_INS_119 , T21 VDDIO_7, U21 VDDIO_6, W21 VDDIO_5, Y21 VDDIO_4
1 alternate drawing of the same symbol
part A text: IO_INS_TEST_EN1
part B text: IO_INS_OTP_BYPASS; IO_INS_TEST_EN0
part D text: VDDIO: 1V8; MMC0; SYSTEM; MMC1; JTAG; USB; EMAC; Test
part E text: VDDIO: 1V8; DVP; BT1120; MIPI; DSI; CSI
part F text: VDDIO:1.8V / 3.3V; GPIO4; GPIO0; (3.3V only); GPIO5; GPIO1; GPIO6; GPIO2; GPIO7; GPIO3

## KEY_MX_RGB
designator S?
1921或1615灯珠
footprint KEY_MX_0805RGB
footprint KEY_MX_0805RGB_2
pins: 1, 2, 3 +, 4 R, 5 G, 6 B

## L3G4200D
designator U?
footprint L3G4200D (L3G4200D MEMS motion sensor:  ultra-stable three-axis digital output gyroscope)
pins: 1 Vdd_IO, 2 SCL/SPC, 3 SDA/SDI/SDO, 4 SDO/SA0, 5 CS, 6 DRDY/INT2, 7 INT1, 8 RES, 9 RES, 10 RES, 11 RES, 12 RES, 13 GND (power), 14 PLLFILT, 15 RES, 16 Vdd

## L298N
designator U?
footprint L298N
pins: 1 SENSING_A, 2 OUT1, 3 OUT2, 4 +SUPPLY_VS, 5 IN_1, 6 EN_A, 7 IN_2, 8 GND, 9 +LOGIC_VSS, 10 IN_3, 11 EN_B, 12 IN_4, 13 OUT3, 14 OUT4, 15 SENSING_B

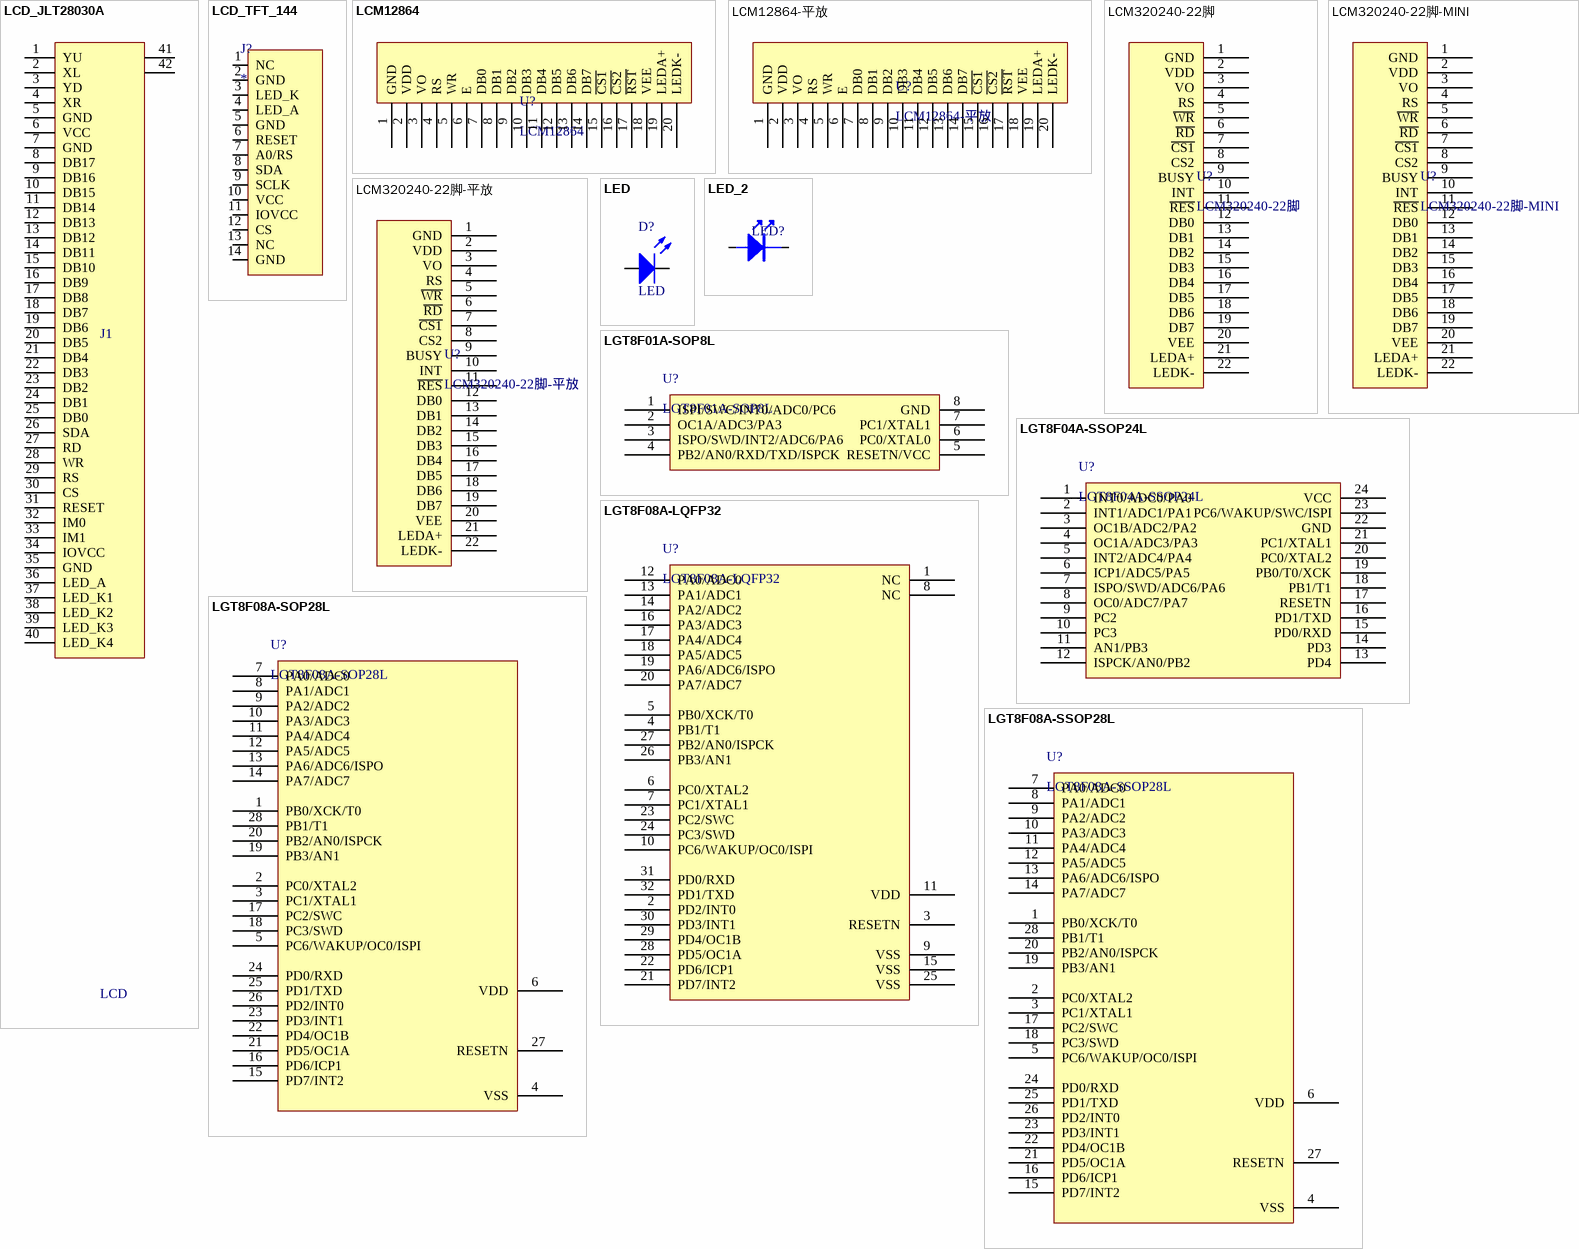
[diagram p14: symbols LCD_JLT28030A to LGT8F08A-SSOP28L]

## LCD_JLT28030A
designator J1, comment LCD
footprint FPC0.5-SMT-40P-B
pins: 1 YU, 2 XL, 3 YD, 4 XR, 5 GND, 6 VCC, 7 GND, 8 DB17, 9 DB16, 10 DB15, 11 DB14, 12 DB13, 13 DB12, 14 DB11, 15 DB10, 16 DB9, 17 DB8, 18 DB7, 19 DB6, 20 DB5, 21 DB4, 22 DB3, 23 DB2, 24 DB1, 25 DB0, 26 SDA, 27 RD, 28 WR, 29 RS, 30 CS, 31 RESET, 32 IM0, 33 IM1, 34 IOVCC, 35 GND, 36 LED_A, 37 LED_K1, 38 LED_K2, 39 LED_K3, 40 LED_K4, 41 GND, 42 GND